# Altium integrated library Xilinx XC5200.IntLib: 211 symbols (part 8 of 19)
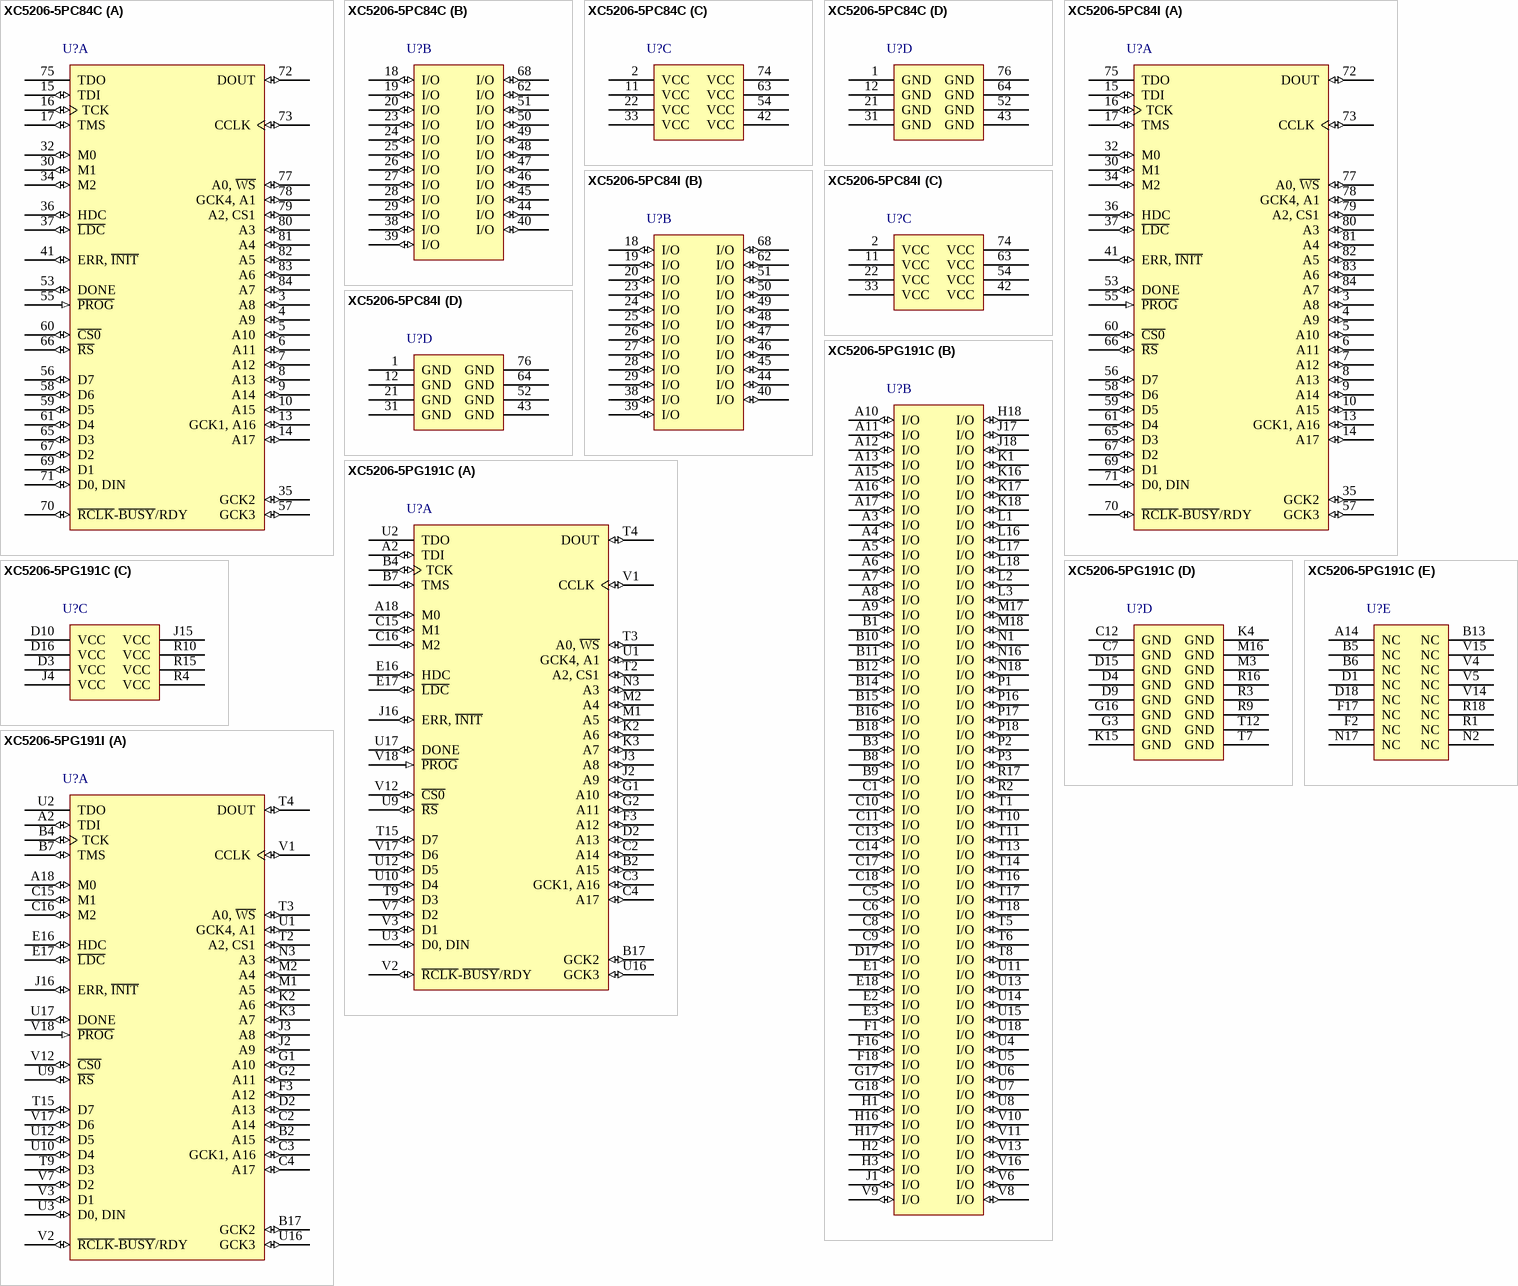
[diagram p70: symbols XC5206-5PC84C to XC5206-5PG191I]

## XC5206-5PG191C
designator U?
XC5200 Series FPGA, 148 User I/Os, 191-Pin PGA, Commercial Grade; Published: 17-Nov-2009; DatasheetVersion: ver5.2, Nov-1998; PackageVersion: ver1.1, Apr-2001; PackageReference: PG191; Publisher: Altium Limited; PackageDescription: 191-Pin Ceramic Pin Grid Array (PG191); ComponentLink1Description: XC5200 Datasheet; ComponentLink1URL: http://www.xilinx.com/support/documentation/data_sheets/5200.pdf; ComponentLink2Description: Pinout Specification; ComponentLink2URL: http://www.xilinx.com/support/documentation/data_sheets/5200.pdf; ComponentLink3Description: PG191 Package Drawing; ComponentLink3URL: http://www.xilinx.com/support/documentation/package_specs/pg191.pdf; ComponentLink4Description: XC5200 Documents; ComponentLink4URL: http://www.xilinx.com/support/documentation/xc5200.htm; ComponentLink5Description: Xilinx.com Home; ComponentLink5URL: http://www.xilinx.com
footprint PG191 (PGA, 191-Leads, Body 47x47mm, Pitch 2.54mm)
signal-integrity model XC5206_PG191 (XC5200)
part A pins: A2 TDI (io) "I/O (TDI)", A18 M0 (io) "M0 (I/O)", B2 A15 (io) "I/O (A15)", B4 TCK (io) "I/O (TCK)", B7 TMS (io) "I/O (TMS)", B17 GCK2 (io) "GCK2 (I/O)", C2 A14 (io) "I/O (A14)", C3 GCK1, A16 (io) "GCK1 (A16, I/O)", C4 A17 (io) "I/O (A17)", C15 M1 (io) "M1 (I/O)", C16 M2 (io) "M2 (I/O)", D2 A13 (io) "I/O (A13)", E16 HDC (io) "I/O (HDC)", E17 ~{LDC} (io) "I/O (LDC)", F3 A12 (io) "I/O (A12)", G1 A10 (io) "I/O (A10)", G2 A11 (io) "I/O (A11)", J2 A9 (io) "I/O (A9)", J3 A8 (io) "I/O (A8)", J16 ERR, ~{INIT} (io) "I/O (ERR, INIT)", K2 A6 (io) "I/O (A6)", K3 A7 (io) "I/O (A7)", M1 A5 (io) "I/O (A5)", M2 A4 (io) "I/O (A4)", N3 A3 (io) "I/O (A3)", T2 A2, CS1 (io) "I/O (A2, CS1)", T3 A0, ~{WS} (io) "I/O (A0, WS)", T4 DOUT (io) "I/O (DOUT)", T9 D3 (io) "I/O (D3)", T15 D7 (io) "I/O (D7)", U1 GCK4, A1 (io) "GCK4 (A1, I/O)", U2 TDO (hiz) "I/O (TDO)", U3 D0, DIN (io) "I/O (D0, DIN)", U9 ~{RS} (io) "I/O (RS)", U10 D4 (io) "I/O (D4)", U12 D5 (io) "I/O (D5)", U16 GCK3 (io) "GCK3 (I/O)", U17 DONE (io), V1 CCLK (io), V2 ~{RCLK}-~{BUSY}/RDY (io) "I/O (RCLK-BUSY/RDY)", V3 D1 (io) "I/O (D1)", V7 D2 (io) "I/O (D2)", V12 ~{CS0} (io) "I/O (CS0)", V17 D6 (io) "I/O (D6)", V18 ~{PROG} (in)
part B pins: A3 I/O (io), A4 I/O (io), A5 I/O (io), A6 I/O (io), A7 I/O (io), A8 I/O (io), A9 I/O (io), A10 I/O (io), A11 I/O (io), A12 I/O (io), A13 I/O (io), A15 I/O (io), A16 I/O (io), A17 I/O (io), B1 I/O (io), B3 I/O (io), B8 I/O (io), B9 I/O (io), B10 I/O (io), B11 I/O (io), B12 I/O (io), B14 I/O (io), B15 I/O (io), B16 I/O (io), B18 I/O (io), C1 I/O (io), C5 I/O (io), C6 I/O (io), C8 I/O (io), C9 I/O (io), C10 I/O (io), C11 I/O (io), C13 I/O (io), C14 I/O (io), C17 I/O (io), C18 I/O (io), D17 I/O (io), E1 I/O (io), E2 I/O (io), E3 I/O (io), E18 I/O (io), F1 I/O (io), F16 I/O (io), F18 I/O (io), G17 I/O (io), G18 I/O (io), H1 I/O (io), H2 I/O (io), H3 I/O (io), H16 I/O (io), H17 I/O (io), H18 I/O (io), J1 I/O (io), J17 I/O (io), J18 I/O (io), K1 I/O (io), K16 I/O (io), K17 I/O (io), K18 I/O (io), L1 I/O (io), L2 I/O (io), L3 I/O (io), L16 I/O (io), L17 I/O (io), L18 I/O (io), M17 I/O (io), M18 I/O (io), N1 I/O (io), N16 I/O (io), N18 I/O (io), P1 I/O (io), P2 I/O (io), P3 I/O (io), P16 I/O (io), P17 I/O (io), P18 I/O (io), R2 I/O (io), R17 I/O (io), T1 I/O (io), T5 I/O (io), T6 I/O (io), T8 I/O (io), T10 I/O (io), T11 I/O (io), T13 I/O (io), T14 I/O (io), T16 I/O (io), T17 I/O (io), T18 I/O (io), U4 I/O (io), U5 I/O (io), U6 I/O (io), U7 I/O (io), U8 I/O (io), U11 I/O (io), U13 I/O (io), U14 I/O (io), U15 I/O (io), U18 I/O (io), V6 I/O (io), V8 I/O (io), V9 I/O (io), V10 I/O (io), V11 I/O (io), V13 I/O (io), V16 I/O (io)
part C pins: D3 VCC (power), D10 VCC (power), D16 VCC (power), J4 VCC (power), J15 VCC (power), R4 VCC (power), R10 VCC (power), R15 VCC (power)
part D pins: C7 GND (power), C12 GND (power), D4 GND (power), D9 GND (power), D15 GND (power), G3 GND (power), G16 GND (power), K4 GND (power), K15 GND (power), M3 GND (power), M16 GND (power), R3 GND (power), R9 GND (power), R16 GND (power), T7 GND (power), T12 GND (power)
part E pins: A14 NC, B5 NC, B6 NC, B13 NC, D1 NC, D18 NC, F2 NC, F17 NC, N2 NC, N17 NC, R1 NC, R18 NC, V4 NC, V5 NC, V14 NC, V15 NC

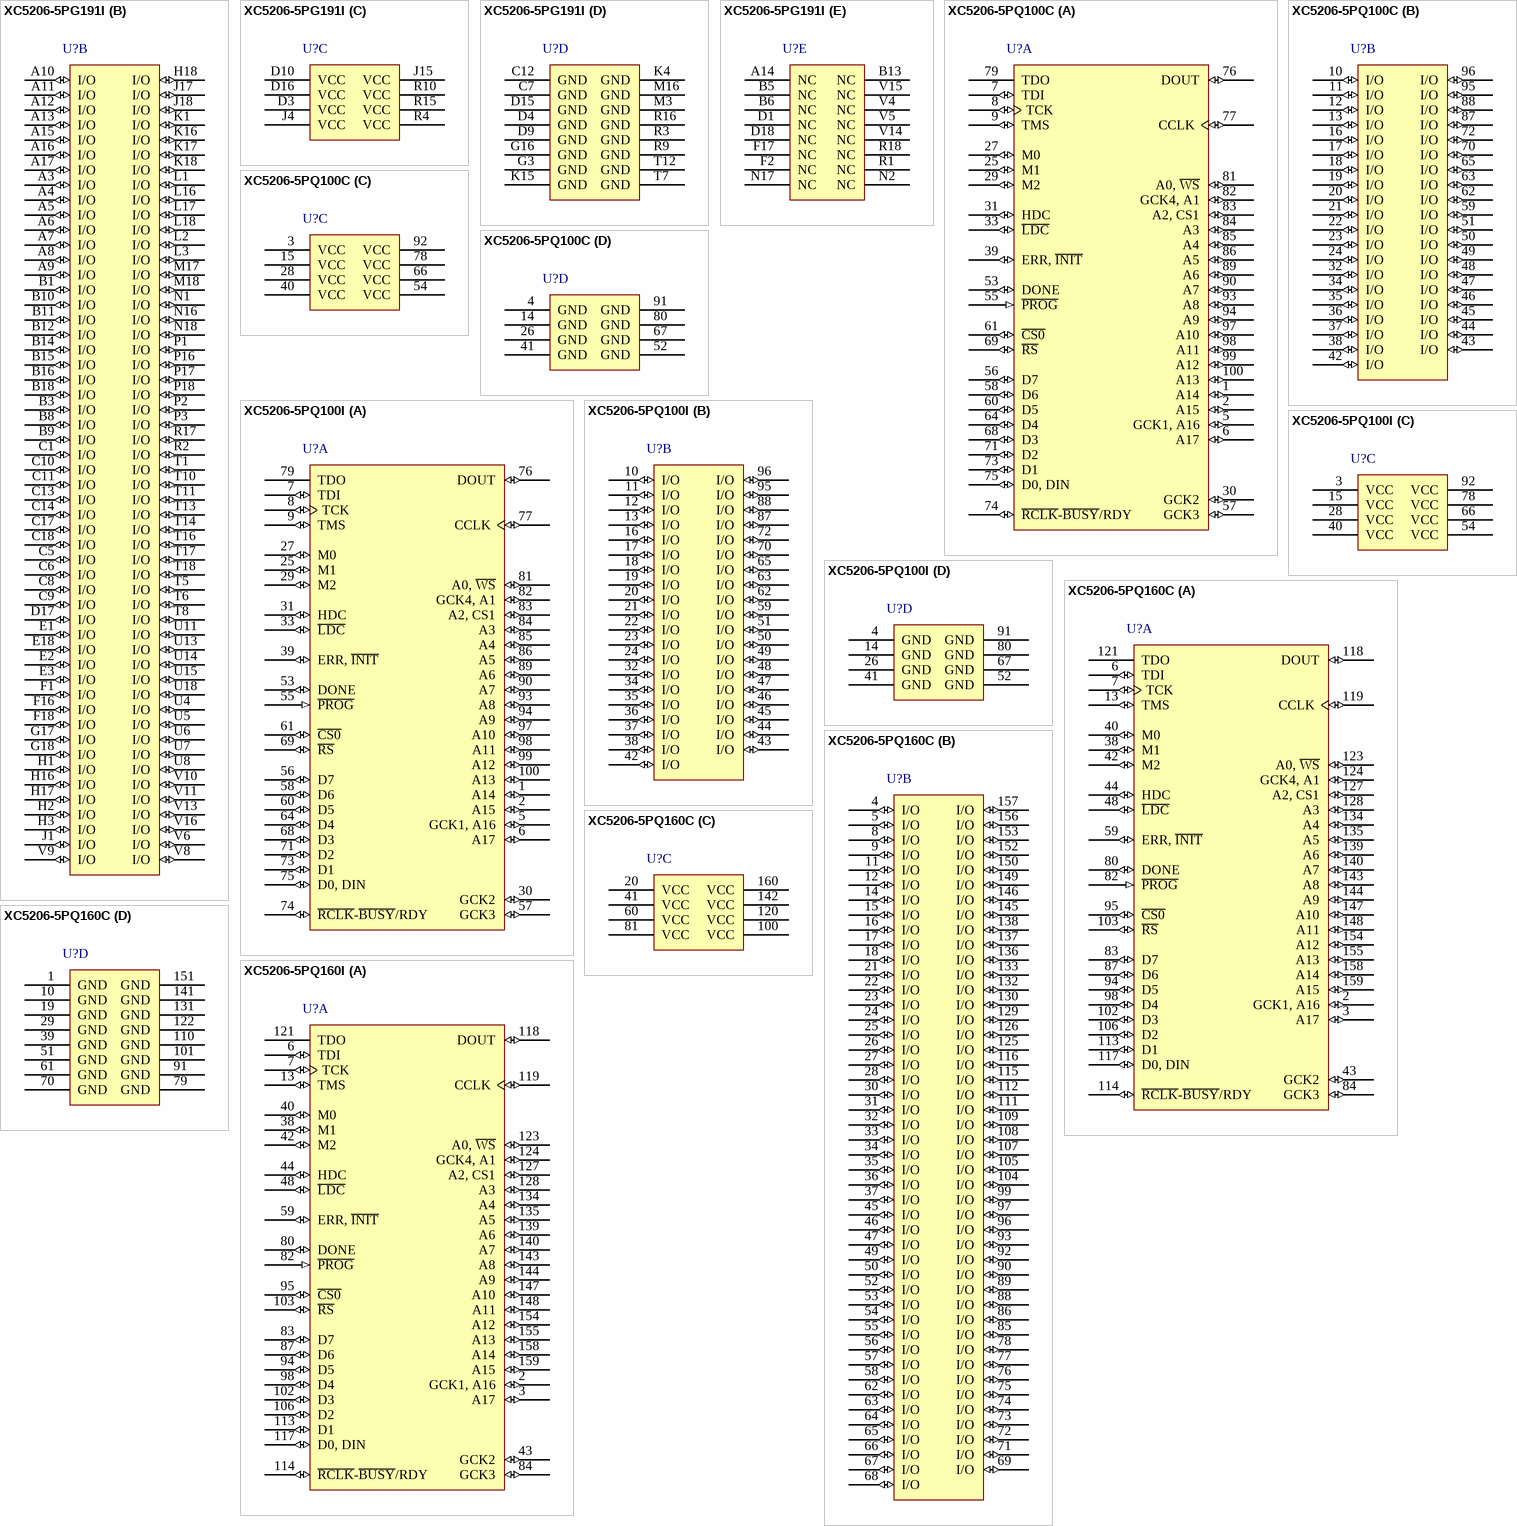
[diagram p23: symbols XC5206-5PG191I to XC5206-5PQ160I]

## XC5206-5PG191I
designator U?
XC5200 Series FPGA, 148 User I/Os, 191-Pin PGA, Industrial Grade; Published: 17-Nov-2009; DatasheetVersion: ver5.2, Nov-1998; PackageVersion: ver1.1, Apr-2001; PackageReference: PG191; Publisher: Altium Limited; PackageDescription: 191-Pin Ceramic Pin Grid Array (PG191); ComponentLink1Description: XC5200 Datasheet; ComponentLink1URL: http://www.xilinx.com/support/documentation/data_sheets/5200.pdf; ComponentLink2Description: Pinout Specification; ComponentLink2URL: http://www.xilinx.com/support/documentation/data_sheets/5200.pdf; ComponentLink3Description: PG191 Package Drawing; ComponentLink3URL: http://www.xilinx.com/support/documentation/package_specs/pg191.pdf; ComponentLink4Description: XC5200 Documents; ComponentLink4URL: http://www.xilinx.com/support/documentation/xc5200.htm; ComponentLink5Description: Xilinx.com Home; ComponentLink5URL: http://www.xilinx.com
footprint PG191 (PGA, 191-Leads, Body 47x47mm, Pitch 2.54mm)
signal-integrity model XC5206_PG191 (XC5200)
part A pins: A2 TDI (io) "I/O (TDI)", A18 M0 (io) "M0 (I/O)", B2 A15 (io) "I/O (A15)", B4 TCK (io) "I/O (TCK)", B7 TMS (io) "I/O (TMS)", B17 GCK2 (io) "GCK2 (I/O)", C2 A14 (io) "I/O (A14)", C3 GCK1, A16 (io) "GCK1 (A16, I/O)", C4 A17 (io) "I/O (A17)", C15 M1 (io) "M1 (I/O)", C16 M2 (io) "M2 (I/O)", D2 A13 (io) "I/O (A13)", E16 HDC (io) "I/O (HDC)", E17 ~{LDC} (io) "I/O (LDC)", F3 A12 (io) "I/O (A12)", G1 A10 (io) "I/O (A10)", G2 A11 (io) "I/O (A11)", J2 A9 (io) "I/O (A9)", J3 A8 (io) "I/O (A8)", J16 ERR, ~{INIT} (io) "I/O (ERR, INIT)", K2 A6 (io) "I/O (A6)", K3 A7 (io) "I/O (A7)", M1 A5 (io) "I/O (A5)", M2 A4 (io) "I/O (A4)", N3 A3 (io) "I/O (A3)", T2 A2, CS1 (io) "I/O (A2, CS1)", T3 A0, ~{WS} (io) "I/O (A0, WS)", T4 DOUT (io) "I/O (DOUT)", T9 D3 (io) "I/O (D3)", T15 D7 (io) "I/O (D7)", U1 GCK4, A1 (io) "GCK4 (A1, I/O)", U2 TDO (hiz) "I/O (TDO)", U3 D0, DIN (io) "I/O (D0, DIN)", U9 ~{RS} (io) "I/O (RS)", U10 D4 (io) "I/O (D4)", U12 D5 (io) "I/O (D5)", U16 GCK3 (io) "GCK3 (I/O)", U17 DONE (io), V1 CCLK (io), V2 ~{RCLK}-~{BUSY}/RDY (io) "I/O (RCLK-BUSY/RDY)", V3 D1 (io) "I/O (D1)", V7 D2 (io) "I/O (D2)", V12 ~{CS0} (io) "I/O (CS0)", V17 D6 (io) "I/O (D6)", V18 ~{PROG} (in)
part B pins: A3 I/O (io), A4 I/O (io), A5 I/O (io), A6 I/O (io), A7 I/O (io), A8 I/O (io), A9 I/O (io), A10 I/O (io), A11 I/O (io), A12 I/O (io), A13 I/O (io), A15 I/O (io), A16 I/O (io), A17 I/O (io), B1 I/O (io), B3 I/O (io), B8 I/O (io), B9 I/O (io), B10 I/O (io), B11 I/O (io), B12 I/O (io), B14 I/O (io), B15 I/O (io), B16 I/O (io), B18 I/O (io), C1 I/O (io), C5 I/O (io), C6 I/O (io), C8 I/O (io), C9 I/O (io), C10 I/O (io), C11 I/O (io), C13 I/O (io), C14 I/O (io), C17 I/O (io), C18 I/O (io), D17 I/O (io), E1 I/O (io), E2 I/O (io), E3 I/O (io), E18 I/O (io), F1 I/O (io), F16 I/O (io), F18 I/O (io), G17 I/O (io), G18 I/O (io), H1 I/O (io), H2 I/O (io), H3 I/O (io), H16 I/O (io), H17 I/O (io), H18 I/O (io), J1 I/O (io), J17 I/O (io), J18 I/O (io), K1 I/O (io), K16 I/O (io), K17 I/O (io), K18 I/O (io), L1 I/O (io), L2 I/O (io), L3 I/O (io), L16 I/O (io), L17 I/O (io), L18 I/O (io), M17 I/O (io), M18 I/O (io), N1 I/O (io), N16 I/O (io), N18 I/O (io), P1 I/O (io), P2 I/O (io), P3 I/O (io), P16 I/O (io), P17 I/O (io), P18 I/O (io), R2 I/O (io), R17 I/O (io), T1 I/O (io), T5 I/O (io), T6 I/O (io), T8 I/O (io), T10 I/O (io), T11 I/O (io), T13 I/O (io), T14 I/O (io), T16 I/O (io), T17 I/O (io), T18 I/O (io), U4 I/O (io), U5 I/O (io), U6 I/O (io), U7 I/O (io), U8 I/O (io), U11 I/O (io), U13 I/O (io), U14 I/O (io), U15 I/O (io), U18 I/O (io), V6 I/O (io), V8 I/O (io), V9 I/O (io), V10 I/O (io), V11 I/O (io), V13 I/O (io), V16 I/O (io)
part C pins: D3 VCC (power), D10 VCC (power), D16 VCC (power), J4 VCC (power), J15 VCC (power), R4 VCC (power), R10 VCC (power), R15 VCC (power)
part D pins: C7 GND (power), C12 GND (power), D4 GND (power), D9 GND (power), D15 GND (power), G3 GND (power), G16 GND (power), K4 GND (power), K15 GND (power), M3 GND (power), M16 GND (power), R3 GND (power), R9 GND (power), R16 GND (power), T7 GND (power), T12 GND (power)
part E pins: A14 NC, B5 NC, B6 NC, B13 NC, D1 NC, D18 NC, F2 NC, F17 NC, N2 NC, N17 NC, R1 NC, R18 NC, V4 NC, V5 NC, V14 NC, V15 NC

## XC5206-5PQ100C
designator U?
XC5200 Series FPGA, 81 User I/Os, 100-Pin PQFP, Commercial Grade; Published: 17-Nov-2009; DatasheetVersion: ver5.2, Nov-1998; PackageVersion: ver1.2, Oct-2002; PackageReference: PQ100; Publisher: Altium Limited; PackageDescription: 100-Pin Plastic Quad Flat Pack (PQ100); Code_IPC: QFP65P1720X2320-100; ComponentLink1Description: XC5200 Datasheet; ComponentLink1URL: http://www.xilinx.com/support/documentation/data_sheets/5200.pdf; ComponentLink2Description: Pinout Specification; ComponentLink2URL: http://www.xilinx.com/support/documentation/data_sheets/5200.pdf; ComponentLink3Description: PQ100 Package Drawing; ComponentLink3URL: http://www.xilinx.com/support/documentation/package_specs/pq100.pdf; ComponentLink4Description: XC5200 Documents; ComponentLink4URL: http://www.xilinx.com/support/documentation/xc5200.htm; ComponentLink5Description: Xilinx.com Home; ComponentLink5URL: http://www.xilinx.com
footprint PQ100_N (QFP, 100-Leads, Body 20x14mm, Pitch 0.65mm, IPC Medium Density)
footprint PQ100_L (QFP, 100-Leads, Body 20x14mm, Pitch 0.65mm, IPC High Density)
footprint PQ100_M (QFP, 100-Leads, Body 20x14mm, Pitch 0.65mm, IPC Low Density)
signal-integrity model XC5206_PQ100 (XC5200)
part A pins: 1 A14 (io) "I/O (A14)", 2 A15 (io) "I/O (A15)", 5 GCK1, A16 (io) "GCK1 (A16, I/O)", 6 A17 (io) "I/O (A17)", 7 TDI (io) "I/O (TDI)", 8 TCK (io) "I/O (TCK)", 9 TMS (io) "I/O (TMS)", 25 M1 (io) "M1 (I/O)", 27 M0 (io) "M0 (I/O)", 29 M2 (io) "M2 (I/O)", 30 GCK2 (io) "GCK2 (I/O)", 31 HDC (io) "I/O (HDC)", 33 ~{LDC} (io) "I/O (LDC)", 39 ERR, ~{INIT} (io) "I/O (ERR, INIT)", 53 DONE (io), 55 ~{PROG} (in), 56 D7 (io) "I/O (D7)", 57 GCK3 (io) "GCK3 (I/O)", 58 D6 (io) "I/O (D6)", 60 D5 (io) "I/O (D5)", 61 ~{CS0} (io) "I/O (CS0)", 64 D4 (io) "I/O (D4)", 68 D3 (io) "I/O (D3)", 69 ~{RS} (io) "I/O (RS)", 71 D2 (io) "I/O (D2)", 73 D1 (io) "I/O (D1)", 74 ~{RCLK}-~{BUSY}/RDY (io) "I/O (RCLK-BUSY/RDY)", 75 D0, DIN (io) "I/O (D0, DIN)", 76 DOUT (io) "I/O (DOUT)", 77 CCLK (io), 79 TDO (hiz) "I/O (TDO)", 81 A0, ~{WS} (io) "I/O (A0, WS)", 82 GCK4, A1 (io) "GCK4 (A1, I/O)", 83 A2, CS1 (io) "I/O (A2, CS1)", 84 A3 (io) "I/O (A3)", 85 A4 (io) "I/O (A4)", 86 A5 (io) "I/O (A5)", 89 A6 (io) "I/O (A6)", 90 A7 (io) "I/O (A7)", 93 A8 (io) "I/O (A8)", 94 A9 (io) "I/O (A9)", 97 A10 (io) "I/O (A10)", 98 A11 (io) "I/O (A11)", 99 A12 (io) "I/O (A12)", 100 A13 (io) "I/O (A13)"
part B pins: 10 I/O (io), 11 I/O (io), 12 I/O (io), 13 I/O (io), 16 I/O (io), 17 I/O (io), 18 I/O (io), 19 I/O (io), 20 I/O (io), 21 I/O (io), 22 I/O (io), 23 I/O (io), 24 I/O (io), 32 I/O (io), 34 I/O (io), 35 I/O (io), 36 I/O (io), 37 I/O (io), 38 I/O (io), 42 I/O (io), 43 I/O (io), 44 I/O (io), 45 I/O (io), 46 I/O (io), 47 I/O (io), 48 I/O (io), 49 I/O (io), 50 I/O (io), 51 I/O (io), 59 I/O (io), 62 I/O (io), 63 I/O (io), 65 I/O (io), 70 I/O (io), 72 I/O (io), 87 I/O (io), 88 I/O (io), 95 I/O (io), 96 I/O (io)
part C pins: 3 VCC (power), 15 VCC (power), 28 VCC (power), 40 VCC (power), 54 VCC (power), 66 VCC (power), 78 VCC (power), 92 VCC (power)
part D pins: 4 GND (power), 14 GND (power), 26 GND (power), 41 GND (power), 52 GND (power), 67 GND (power), 80 GND (power), 91 GND (power)

## XC5206-5PQ100I
designator U?
XC5200 Series FPGA, 81 User I/Os, 100-Pin PQFP, Industrial Grade; Published: 17-Nov-2009; DatasheetVersion: ver5.2, Nov-1998; PackageVersion: ver1.2, Oct-2002; PackageReference: PQ100; Publisher: Altium Limited; PackageDescription: 100-Pin Plastic Quad Flat Pack (PQ100); Code_IPC: QFP65P1720X2320-100; ComponentLink1Description: XC5200 Datasheet; ComponentLink1URL: http://www.xilinx.com/support/documentation/data_sheets/5200.pdf; ComponentLink2Description: Pinout Specification; ComponentLink2URL: http://www.xilinx.com/support/documentation/data_sheets/5200.pdf; ComponentLink3Description: PQ100 Package Drawing; ComponentLink3URL: http://www.xilinx.com/support/documentation/package_specs/pq100.pdf; ComponentLink4Description: XC5200 Documents; ComponentLink4URL: http://www.xilinx.com/support/documentation/xc5200.htm; ComponentLink5Description: Xilinx.com Home; ComponentLink5URL: http://www.xilinx.com
footprint PQ100_N (QFP, 100-Leads, Body 20x14mm, Pitch 0.65mm, IPC Medium Density)
footprint PQ100_L (QFP, 100-Leads, Body 20x14mm, Pitch 0.65mm, IPC High Density)
footprint PQ100_M (QFP, 100-Leads, Body 20x14mm, Pitch 0.65mm, IPC Low Density)
signal-integrity model XC5206_PQ100 (XC5200)
part A pins: 1 A14 (io) "I/O (A14)", 2 A15 (io) "I/O (A15)", 5 GCK1, A16 (io) "GCK1 (A16, I/O)", 6 A17 (io) "I/O (A17)", 7 TDI (io) "I/O (TDI)", 8 TCK (io) "I/O (TCK)", 9 TMS (io) "I/O (TMS)", 25 M1 (io) "M1 (I/O)", 27 M0 (io) "M0 (I/O)", 29 M2 (io) "M2 (I/O)", 30 GCK2 (io) "GCK2 (I/O)", 31 HDC (io) "I/O (HDC)", 33 ~{LDC} (io) "I/O (LDC)", 39 ERR, ~{INIT} (io) "I/O (ERR, INIT)", 53 DONE (io), 55 ~{PROG} (in), 56 D7 (io) "I/O (D7)", 57 GCK3 (io) "GCK3 (I/O)", 58 D6 (io) "I/O (D6)", 60 D5 (io) "I/O (D5)", 61 ~{CS0} (io) "I/O (CS0)", 64 D4 (io) "I/O (D4)", 68 D3 (io) "I/O (D3)", 69 ~{RS} (io) "I/O (RS)", 71 D2 (io) "I/O (D2)", 73 D1 (io) "I/O (D1)", 74 ~{RCLK}-~{BUSY}/RDY (io) "I/O (RCLK-BUSY/RDY)", 75 D0, DIN (io) "I/O (D0, DIN)", 76 DOUT (io) "I/O (DOUT)", 77 CCLK (io), 79 TDO (hiz) "I/O (TDO)", 81 A0, ~{WS} (io) "I/O (A0, WS)", 82 GCK4, A1 (io) "GCK4 (A1, I/O)", 83 A2, CS1 (io) "I/O (A2, CS1)", 84 A3 (io) "I/O (A3)", 85 A4 (io) "I/O (A4)", 86 A5 (io) "I/O (A5)", 89 A6 (io) "I/O (A6)", 90 A7 (io) "I/O (A7)", 93 A8 (io) "I/O (A8)", 94 A9 (io) "I/O (A9)", 97 A10 (io) "I/O (A10)", 98 A11 (io) "I/O (A11)", 99 A12 (io) "I/O (A12)", 100 A13 (io) "I/O (A13)"
part B pins: 10 I/O (io), 11 I/O (io), 12 I/O (io), 13 I/O (io), 16 I/O (io), 17 I/O (io), 18 I/O (io), 19 I/O (io), 20 I/O (io), 21 I/O (io), 22 I/O (io), 23 I/O (io), 24 I/O (io), 32 I/O (io), 34 I/O (io), 35 I/O (io), 36 I/O (io), 37 I/O (io), 38 I/O (io), 42 I/O (io), 43 I/O (io), 44 I/O (io), 45 I/O (io), 46 I/O (io), 47 I/O (io), 48 I/O (io), 49 I/O (io), 50 I/O (io), 51 I/O (io), 59 I/O (io), 62 I/O (io), 63 I/O (io), 65 I/O (io), 70 I/O (io), 72 I/O (io), 87 I/O (io), 88 I/O (io), 95 I/O (io), 96 I/O (io)
part C pins: 3 VCC (power), 15 VCC (power), 28 VCC (power), 40 VCC (power), 54 VCC (power), 66 VCC (power), 78 VCC (power), 92 VCC (power)
part D pins: 4 GND (power), 14 GND (power), 26 GND (power), 41 GND (power), 52 GND (power), 67 GND (power), 80 GND (power), 91 GND (power)

## XC5206-5PQ160C
designator U?
XC5200 Series FPGA, 133 User I/Os, 160-Pin PQFP, Commercial Grade; Published: 17-Nov-2009; DatasheetVersion: ver5.2, Nov-1998; PackageVersion: ver1.2, Jun-2004; PackageReference: PQ160; Publisher: Altium Limited; PackageDescription: 160-Pin Plastic Quad Flat Pack (PQ160); Supplier 1: Digi-Key; Supplier Part Number 1: 122-1140-ND; Code_JEDEC: MS-022-DD1; Code_IPC: QFP65P3120X3120-160; ComponentLink1Description: XC5200 Datasheet; ComponentLink1URL: http://www.xilinx.com/support/documentation/data_sheets/5200.pdf; ComponentLink2Description: Pinout Specification; ComponentLink2URL: http://www.xilinx.com/support/documentation/data_sheets/5200.pdf; ComponentLink3Description: Discontinuation Notice; ComponentLink3URL: http://www.xilinx.com/support/documentation/customer_notices/xcn09001.pdf; ComponentLink4Description: PQ160 Package Drawing; ComponentLink4URL: http://www.xilinx.com/support/documentation/package_specs/pq160.pdf; ComponentLink5Description: XC5200 Documents; ComponentLink5URL: http://www.xilinx.com/support/documentation/xc5200.htm; ComponentLink6Description: Xilinx.com Home; ComponentLink6URL: http://www.xilinx.com
footprint PQ160_N (QFP, 160-Leads, Body 28x28mm, Pitch 0.65mm, IPC Medium Density)
footprint PQ160_L (QFP, 160-Leads, Body 28x28mm, Pitch 0.65mm, IPC High Density)
footprint PQ160_M (QFP, 160-Leads, Body 28x28mm, Pitch 0.65mm, IPC Low Density)
signal-integrity model XC5206_PQ160 (XC5200)
part A pins: 2 GCK1, A16 (io) "GCK1 (A16, I/O)", 3 A17 (io) "I/O (A17)", 6 TDI (io) "I/O (TDI)", 7 TCK (io) "I/O (TCK)", 13 TMS (io) "I/O (TMS)", 38 M1 (io) "M1 (I/O)", 40 M0 (io) "M0 (I/O)", 42 M2 (io) "M2 (I/O)", 43 GCK2 (io) "GCK2 (I/O)", 44 HDC (io) "I/O (HDC)", 48 ~{LDC} (io) "I/O (LDC)", 59 ERR, ~{INIT} (io) "I/O (ERR, INIT)", 80 DONE (io), 82 ~{PROG} (in), 83 D7 (io) "I/O (D7)", 84 GCK3 (io) "GCK3 (I/O)", 87 D6 (io) "I/O (D6)", 94 D5 (io) "I/O (D5)", 95 ~{CS0} (io) "I/O (CS0)", 98 D4 (io) "I/O (D4)", 102 D3 (io) "I/O (D3)", 103 ~{RS} (io) "I/O (RS)", 106 D2 (io) "I/O (D2)", 113 D1 (io) "I/O (D1)", 114 ~{RCLK}-~{BUSY}/RDY (io) "I/O (RCLK-BUSY/RDY)", 117 D0, DIN (io) "I/O (D0, DIN)", 118 DOUT (io) "I/O (DOUT)", 119 CCLK (io), 121 TDO (hiz) "I/O (TDO)", 123 A0, ~{WS} (io) "I/O (A0, WS)", 124 GCK4, A1 (io) "GCK4 (A1, I/O)", 127 A2, CS1 (io) "I/O (A2, CS1)", 128 A3 (io) "I/O (A3)", 134 A4 (io) "I/O (A4)", 135 A5 (io) "I/O (A5)", 139 A6 (io) "I/O (A6)", 140 A7 (io) "I/O (A7)", 143 A8 (io) "I/O (A8)", 144 A9 (io) "I/O (A9)", 147 A10 (io) "I/O (A10)", 148 A11 (io) "I/O (A11)", 154 A12 (io) "I/O (A12)", 155 A13 (io) "I/O (A13)", 158 A14 (io) "I/O (A14)", 159 A15 (io) "I/O (A15)"
part B pins: 4 I/O (io), 5 I/O (io), 8 I/O (io), 9 I/O (io), 11 I/O (io), 12 I/O (io), 14 I/O (io), 15 I/O (io), 16 I/O (io), 17 I/O (io), 18 I/O (io), 21 I/O (io), 22 I/O (io), 23 I/O (io), 24 I/O (io), 25 I/O (io), 26 I/O (io), 27 I/O (io), 28 I/O (io), 30 I/O (io), 31 I/O (io), 32 I/O (io), 33 I/O (io), 34 I/O (io), 35 I/O (io), 36 I/O (io), 37 I/O (io), 45 I/O (io), 46 I/O (io), 47 I/O (io), 49 I/O (io), 50 I/O (io), 52 I/O (io), 53 I/O (io), 54 I/O (io), 55 I/O (io), 56 I/O (io), 57 I/O (io), 58 I/O (io), 62 I/O (io), 63 I/O (io), 64 I/O (io), 65 I/O (io), 66 I/O (io), 67 I/O (io), 68 I/O (io), 69 I/O (io), 71 I/O (io), 72 I/O (io), 73 I/O (io), 74 I/O (io), 75 I/O (io), 76 I/O (io), 77 I/O (io), 78 I/O (io), 85 I/O (io), 86 I/O (io), 88 I/O (io), 89 I/O (io), 90 I/O (io), 92 I/O (io), 93 I/O (io), 96 I/O (io), 97 I/O (io), 99 I/O (io), 104 I/O (io), 105 I/O (io), 107 I/O (io), 108 I/O (io), 109 I/O (io), 111 I/O (io), 112 I/O (io), 115 I/O (io), 116 I/O (io), 125 I/O (io), 126 I/O (io), 129 I/O (io), 130 I/O (io), 132 I/O (io), 133 I/O (io), 136 I/O (io), 137 I/O (io), 138 I/O (io), 145 I/O (io), 146 I/O (io), 149 I/O (io), 150 I/O (io), 152 I/O (io), 153 I/O (io), 156 I/O (io), 157 I/O (io)
part C pins: 20 VCC (power), 41 VCC (power), 60 VCC (power), 81 VCC (power), 100 VCC (power), 120 VCC (power), 142 VCC (power), 160 VCC (power)
part D pins: 1 GND (power), 10 GND (power), 19 GND (power), 29 GND (power), 39 GND (power), 51 GND (power), 61 GND (power), 70 GND (power), 79 GND (power), 91 GND (power), 101 GND (power), 110 GND (power), 122 GND (power), 131 GND (power), 141 GND (power), 151 GND (power)

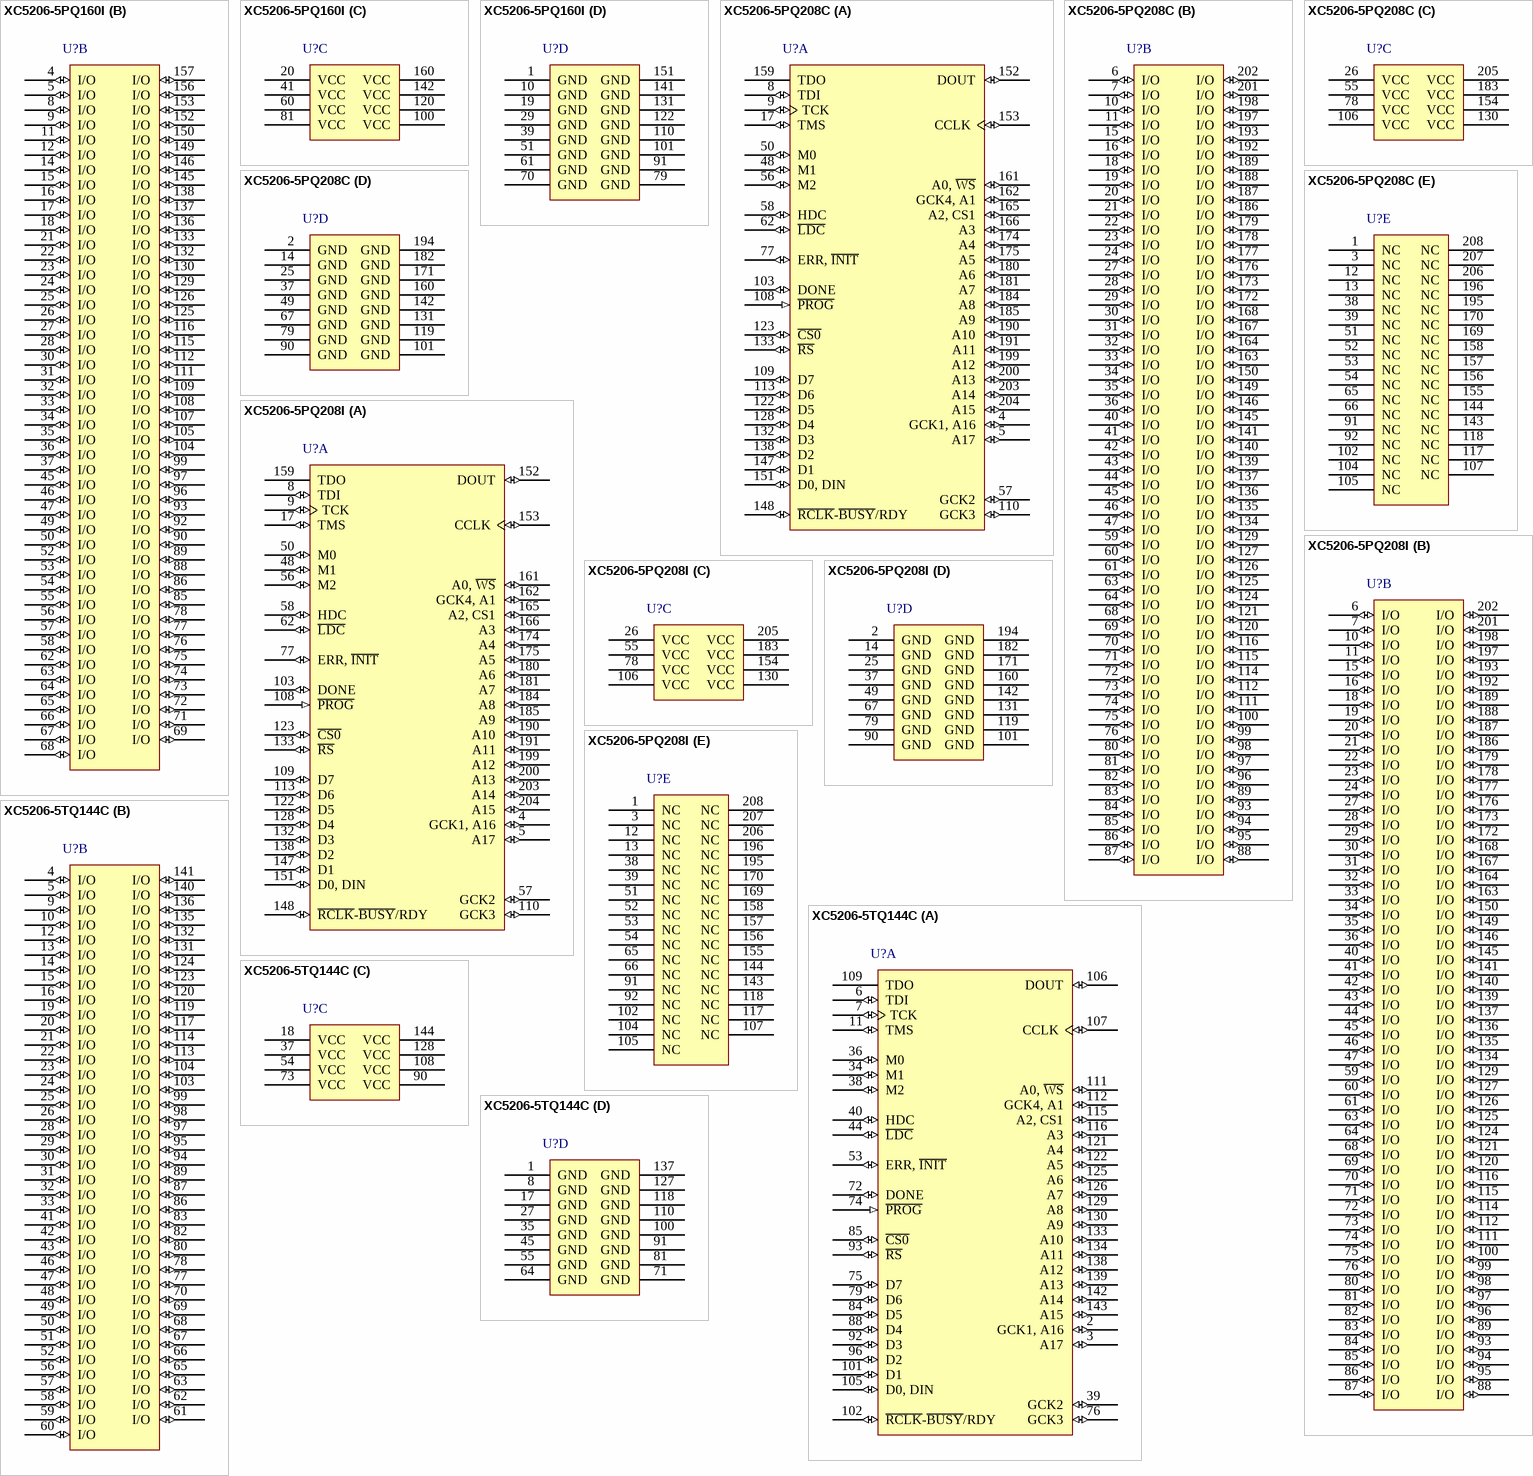
[diagram p24: symbols XC5206-5PQ160I to XC5206-5TQ144C]

## XC5206-5PQ160I
designator U?
XC5200 Series FPGA, 133 User I/Os, 160-Pin PQFP, Industrial Grade; Published: 17-Nov-2009; DatasheetVersion: ver5.2, Nov-1998; PackageVersion: ver1.2, Jun-2004; PackageReference: PQ160; Publisher: Altium Limited; PackageDescription: 160-Pin Plastic Quad Flat Pack (PQ160); Code_JEDEC: MS-022-DD1; Code_IPC: QFP65P3120X3120-160; ComponentLink1Description: XC5200 Datasheet; ComponentLink1URL: http://www.xilinx.com/support/documentation/data_sheets/5200.pdf; ComponentLink2Description: Pinout Specification; ComponentLink2URL: http://www.xilinx.com/support/documentation/data_sheets/5200.pdf; ComponentLink3Description: Discontinuation Notice; ComponentLink3URL: http://www.xilinx.com/support/documentation/customer_notices/xcn09001.pdf; ComponentLink4Description: PQ160 Package Drawing; ComponentLink4URL: http://www.xilinx.com/support/documentation/package_specs/pq160.pdf; ComponentLink5Description: XC5200 Documents; ComponentLink5URL: http://www.xilinx.com/support/documentation/xc5200.htm; ComponentLink6Description: Xilinx.com Home; ComponentLink6URL: http://www.xilinx.com
footprint PQ160_N (QFP, 160-Leads, Body 28x28mm, Pitch 0.65mm, IPC Medium Density)
footprint PQ160_L (QFP, 160-Leads, Body 28x28mm, Pitch 0.65mm, IPC High Density)
footprint PQ160_M (QFP, 160-Leads, Body 28x28mm, Pitch 0.65mm, IPC Low Density)
signal-integrity model XC5206_PQ160 (XC5200)
part A pins: 2 GCK1, A16 (io) "GCK1 (A16, I/O)", 3 A17 (io) "I/O (A17)", 6 TDI (io) "I/O (TDI)", 7 TCK (io) "I/O (TCK)", 13 TMS (io) "I/O (TMS)", 38 M1 (io) "M1 (I/O)", 40 M0 (io) "M0 (I/O)", 42 M2 (io) "M2 (I/O)", 43 GCK2 (io) "GCK2 (I/O)", 44 HDC (io) "I/O (HDC)", 48 ~{LDC} (io) "I/O (LDC)", 59 ERR, ~{INIT} (io) "I/O (ERR, INIT)", 80 DONE (io), 82 ~{PROG} (in), 83 D7 (io) "I/O (D7)", 84 GCK3 (io) "GCK3 (I/O)", 87 D6 (io) "I/O (D6)", 94 D5 (io) "I/O (D5)", 95 ~{CS0} (io) "I/O (CS0)", 98 D4 (io) "I/O (D4)", 102 D3 (io) "I/O (D3)", 103 ~{RS} (io) "I/O (RS)", 106 D2 (io) "I/O (D2)", 113 D1 (io) "I/O (D1)", 114 ~{RCLK}-~{BUSY}/RDY (io) "I/O (RCLK-BUSY/RDY)", 117 D0, DIN (io) "I/O (D0, DIN)", 118 DOUT (io) "I/O (DOUT)", 119 CCLK (io), 121 TDO (hiz) "I/O (TDO)", 123 A0, ~{WS} (io) "I/O (A0, WS)", 124 GCK4, A1 (io) "GCK4 (A1, I/O)", 127 A2, CS1 (io) "I/O (A2, CS1)", 128 A3 (io) "I/O (A3)", 134 A4 (io) "I/O (A4)", 135 A5 (io) "I/O (A5)", 139 A6 (io) "I/O (A6)", 140 A7 (io) "I/O (A7)", 143 A8 (io) "I/O (A8)", 144 A9 (io) "I/O (A9)", 147 A10 (io) "I/O (A10)", 148 A11 (io) "I/O (A11)", 154 A12 (io) "I/O (A12)", 155 A13 (io) "I/O (A13)", 158 A14 (io) "I/O (A14)", 159 A15 (io) "I/O (A15)"
part B pins: 4 I/O (io), 5 I/O (io), 8 I/O (io), 9 I/O (io), 11 I/O (io), 12 I/O (io), 14 I/O (io), 15 I/O (io), 16 I/O (io), 17 I/O (io), 18 I/O (io), 21 I/O (io), 22 I/O (io), 23 I/O (io), 24 I/O (io), 25 I/O (io), 26 I/O (io), 27 I/O (io), 28 I/O (io), 30 I/O (io), 31 I/O (io), 32 I/O (io), 33 I/O (io), 34 I/O (io), 35 I/O (io), 36 I/O (io), 37 I/O (io), 45 I/O (io), 46 I/O (io), 47 I/O (io), 49 I/O (io), 50 I/O (io), 52 I/O (io), 53 I/O (io), 54 I/O (io), 55 I/O (io), 56 I/O (io), 57 I/O (io), 58 I/O (io), 62 I/O (io), 63 I/O (io), 64 I/O (io), 65 I/O (io), 66 I/O (io), 67 I/O (io), 68 I/O (io), 69 I/O (io), 71 I/O (io), 72 I/O (io), 73 I/O (io), 74 I/O (io), 75 I/O (io), 76 I/O (io), 77 I/O (io), 78 I/O (io), 85 I/O (io), 86 I/O (io), 88 I/O (io), 89 I/O (io), 90 I/O (io), 92 I/O (io), 93 I/O (io), 96 I/O (io), 97 I/O (io), 99 I/O (io), 104 I/O (io), 105 I/O (io), 107 I/O (io), 108 I/O (io), 109 I/O (io), 111 I/O (io), 112 I/O (io), 115 I/O (io), 116 I/O (io), 125 I/O (io), 126 I/O (io), 129 I/O (io), 130 I/O (io), 132 I/O (io), 133 I/O (io), 136 I/O (io), 137 I/O (io), 138 I/O (io), 145 I/O (io), 146 I/O (io), 149 I/O (io), 150 I/O (io), 152 I/O (io), 153 I/O (io), 156 I/O (io), 157 I/O (io)
part C pins: 20 VCC (power), 41 VCC (power), 60 VCC (power), 81 VCC (power), 100 VCC (power), 120 VCC (power), 142 VCC (power), 160 VCC (power)
part D pins: 1 GND (power), 10 GND (power), 19 GND (power), 29 GND (power), 39 GND (power), 51 GND (power), 61 GND (power), 70 GND (power), 79 GND (power), 91 GND (power), 101 GND (power), 110 GND (power), 122 GND (power), 131 GND (power), 141 GND (power), 151 GND (power)

## XC5206-5PQ208C
designator U?
XC5200 Series FPGA, 148 User I/Os, 208-Pin PQFP, Commercial Grade; Published: 17-Nov-2009; DatasheetVersion: ver5.2, Nov-1998; PackageVersion: ver1.2, Jun-2004; PackageReference: PQ208; Publisher: Altium Limited; PackageDescription: 208-Pin Plastic Quad Flat Pack (PQ208); Supplier 1: Digi-Key; Supplier Part Number 1: 122-1142-ND; Code_JEDEC: MS-029-FA-1; ComponentLink1Description: XC5200 Datasheet; ComponentLink1URL: http://www.xilinx.com/support/documentation/data_sheets/5200.pdf; ComponentLink2Description: Pinout Specification; ComponentLink2URL: http://www.xilinx.com/support/documentation/data_sheets/5200.pdf; ComponentLink3Description: Discontinuation Notice; ComponentLink3URL: http://www.xilinx.com/support/documentation/customer_notices/xcn09001.pdf; ComponentLink4Description: PQ208 Package Drawing; ComponentLink4URL: http://www.xilinx.com/support/documentation/package_specs/pq208.pdf; ComponentLink5Description: XC5200 Documents; ComponentLink5URL: http://www.xilinx.com/support/documentation/xc5200.htm; ComponentLink6Description: Xilinx.com Home; ComponentLink6URL: http://www.xilinx.com
footprint PQ208_N (Shrink QFP, 208-Leads, Body 28x28mm, Pitch 0.5mm, IPC Medium Density)
footprint PQ208_L (Shrink QFP, 208-Leads, Body 28x28mm, Pitch 0.5mm, IPC High Density)
footprint PQ208_M (Shrink QFP, 208-Leads, Body 28x28mm, Pitch 0.5mm, IPC Low Density)
signal-integrity model XC5206_PQ208 (XC5200)
part A pins: 4 GCK1, A16 (io) "GCK1 (A16, I/O)", 5 A17 (io) "I/O (A17)", 8 TDI (io) "I/O (TDI)", 9 TCK (io) "I/O (TCK)", 17 TMS (io) "I/O (TMS)", 48 M1 (io) "M1 (I/O)", 50 M0 (io) "M0 (I/O)", 56 M2 (io) "M2 (I/O)", 57 GCK2 (io) "GCK2 (I/O)", 58 HDC (io) "I/O (HDC)", 62 ~{LDC} (io) "I/O (LDC)", 77 ERR, ~{INIT} (io) "I/O (ERR, INIT)", 103 DONE (io), 108 ~{PROG} (in), 109 D7 (io) "I/O (D7)", 110 GCK3 (io) "GCK3 (I/O)", 113 D6 (io) "I/O (D6)", 122 D5 (io) "I/O (D5)", 123 ~{CS0} (io) "I/O (CS0)", 128 D4 (io) "I/O (D4)", 132 D3 (io) "I/O (D3)", 133 ~{RS} (io) "I/O (RS)", 138 D2 (io) "I/O (D2)", 147 D1 (io) "I/O (D1)", 148 ~{RCLK}-~{BUSY}/RDY (io) "I/O (RCLK-BUSY/RDY)", 151 D0, DIN (io) "I/O (D0, DIN)", 152 DOUT (io) "I/O (DOUT)", 153 CCLK (io), 159 TDO (hiz) "I/O (TDO)", 161 A0, ~{WS} (io) "I/O (A0, WS)", 162 GCK4, A1 (io) "GCK4 (A1, I/O)", 165 A2, CS1 (io) "I/O (A2, CS1)", 166 A3 (io) "I/O (A3)", 174 A4 (io) "I/O (A4)", 175 A5 (io) "I/O (A5)", 180 A6 (io) "I/O (A6)", 181 A7 (io) "I/O (A7)", 184 A8 (io) "I/O (A8)", 185 A9 (io) "I/O (A9)", 190 A10 (io) "I/O (A10)", 191 A11 (io) "I/O (A11)", 199 A12 (io) "I/O (A12)", 200 A13 (io) "I/O (A13)", 203 A14 (io) "I/O (A14)", 204 A15 (io) "I/O (A15)"
part B pins: 6 I/O (io), 7 I/O (io), 10 I/O (io), 11 I/O (io), 15 I/O (io), 16 I/O (io), 18 I/O (io), 19 I/O (io), 20 I/O (io), 21 I/O (io), 22 I/O (io), 23 I/O (io), 24 I/O (io), 27 I/O (io), 28 I/O (io), 29 I/O (io), 30 I/O (io), 31 I/O (io), 32 I/O (io), 33 I/O (io), 34 I/O (io), 35 I/O (io), 36 I/O (io), 40 I/O (io), 41 I/O (io), 42 I/O (io), 43 I/O (io), 44 I/O (io), 45 I/O (io), 46 I/O (io), 47 I/O (io), 59 I/O (io), 60 I/O (io), 61 I/O (io), 63 I/O (io), 64 I/O (io), 68 I/O (io), 69 I/O (io), 70 I/O (io), 71 I/O (io), 72 I/O (io), 73 I/O (io), 74 I/O (io), 75 I/O (io), 76 I/O (io), 80 I/O (io), 81 I/O (io), 82 I/O (io), 83 I/O (io), 84 I/O (io), 85 I/O (io), 86 I/O (io), 87 I/O (io), 88 I/O (io), 89 I/O (io), 93 I/O (io), 94 I/O (io), 95 I/O (io), 96 I/O (io), 97 I/O (io), 98 I/O (io), 99 I/O (io), 100 I/O (io), 111 I/O (io), 112 I/O (io), 114 I/O (io), 115 I/O (io), 116 I/O (io), 120 I/O (io), 121 I/O (io), 124 I/O (io), 125 I/O (io), 126 I/O (io), 127 I/O (io), 129 I/O (io), 134 I/O (io), 135 I/O (io), 136 I/O (io), 137 I/O (io), 139 I/O (io), 140 I/O (io), 141 I/O (io), 145 I/O (io), 146 I/O (io), 149 I/O (io), 150 I/O (io), 163 I/O (io), 164 I/O (io), 167 I/O (io), 168 I/O (io), 172 I/O (io), 173 I/O (io), 176 I/O (io), 177 I/O (io), 178 I/O (io), 179 I/O (io), 186 I/O (io), 187 I/O (io), 188 I/O (io), 189 I/O (io), 192 I/O (io), 193 I/O (io), 197 I/O (io), 198 I/O (io), 201 I/O (io), 202 I/O (io)
part C pins: 26 VCC (power), 55 VCC (power), 78 VCC (power), 106 VCC (power), 130 VCC (power), 154 VCC (power), 183 VCC (power), 205 VCC (power)
part D pins: 2 GND (power), 14 GND (power), 25 GND (power), 37 GND (power), 49 GND (power), 67 GND (power), 79 GND (power), 90 GND (power), 101 GND (power), 119 GND (power), 131 GND (power), 142 GND (power), 160 GND (power), 171 GND (power), 182 GND (power), 194 GND (power)
part E pins: 1 NC, 3 NC, 12 NC, 13 NC, 38 NC, 39 NC, 51 NC, 52 NC, 53 NC, 54 NC, 65 NC, 66 NC, 91 NC, 92 NC, 102 NC, 104 NC, 105 NC, 107 NC, 117 NC, 118 NC, 143 NC, 144 NC, 155 NC, 156 NC, 157 NC, 158 NC, 169 NC, 170 NC, 195 NC, 196 NC, 206 NC, 207 NC, 208 NC

## XC5206-5PQ208I
designator U?
XC5200 Series FPGA, 148 User I/Os, 208-Pin PQFP, Industrial Grade; Published: 17-Nov-2009; DatasheetVersion: ver5.2, Nov-1998; PackageVersion: ver1.2, Jun-2004; PackageReference: PQ208; Publisher: Altium Limited; PackageDescription: 208-Pin Plastic Quad Flat Pack (PQ208); Code_JEDEC: MS-029-FA-1; ComponentLink1Description: XC5200 Datasheet; ComponentLink1URL: http://www.xilinx.com/support/documentation/data_sheets/5200.pdf; ComponentLink2Description: Pinout Specification; ComponentLink2URL: http://www.xilinx.com/support/documentation/data_sheets/5200.pdf; ComponentLink3Description: Discontinuation Notice; ComponentLink3URL: http://www.xilinx.com/support/documentation/customer_notices/xcn09001.pdf; ComponentLink4Description: PQ208 Package Drawing; ComponentLink4URL: http://www.xilinx.com/support/documentation/package_specs/pq208.pdf; ComponentLink5Description: XC5200 Documents; ComponentLink5URL: http://www.xilinx.com/support/documentation/xc5200.htm; ComponentLink6Description: Xilinx.com Home; ComponentLink6URL: http://www.xilinx.com
footprint PQ208_N (Shrink QFP, 208-Leads, Body 28x28mm, Pitch 0.5mm, IPC Medium Density)
footprint PQ208_L (Shrink QFP, 208-Leads, Body 28x28mm, Pitch 0.5mm, IPC High Density)
footprint PQ208_M (Shrink QFP, 208-Leads, Body 28x28mm, Pitch 0.5mm, IPC Low Density)
signal-integrity model XC5206_PQ208 (XC5200)
part A pins: 4 GCK1, A16 (io) "GCK1 (A16, I/O)", 5 A17 (io) "I/O (A17)", 8 TDI (io) "I/O (TDI)", 9 TCK (io) "I/O (TCK)", 17 TMS (io) "I/O (TMS)", 48 M1 (io) "M1 (I/O)", 50 M0 (io) "M0 (I/O)", 56 M2 (io) "M2 (I/O)", 57 GCK2 (io) "GCK2 (I/O)", 58 HDC (io) "I/O (HDC)", 62 ~{LDC} (io) "I/O (LDC)", 77 ERR, ~{INIT} (io) "I/O (ERR, INIT)", 103 DONE (io), 108 ~{PROG} (in), 109 D7 (io) "I/O (D7)", 110 GCK3 (io) "GCK3 (I/O)", 113 D6 (io) "I/O (D6)", 122 D5 (io) "I/O (D5)", 123 ~{CS0} (io) "I/O (CS0)", 128 D4 (io) "I/O (D4)", 132 D3 (io) "I/O (D3)", 133 ~{RS} (io) "I/O (RS)", 138 D2 (io) "I/O (D2)", 147 D1 (io) "I/O (D1)", 148 ~{RCLK}-~{BUSY}/RDY (io) "I/O (RCLK-BUSY/RDY)", 151 D0, DIN (io) "I/O (D0, DIN)", 152 DOUT (io) "I/O (DOUT)", 153 CCLK (io), 159 TDO (hiz) "I/O (TDO)", 161 A0, ~{WS} (io) "I/O (A0, WS)", 162 GCK4, A1 (io) "GCK4 (A1, I/O)", 165 A2, CS1 (io) "I/O (A2, CS1)", 166 A3 (io) "I/O (A3)", 174 A4 (io) "I/O (A4)", 175 A5 (io) "I/O (A5)", 180 A6 (io) "I/O (A6)", 181 A7 (io) "I/O (A7)", 184 A8 (io) "I/O (A8)", 185 A9 (io) "I/O (A9)", 190 A10 (io) "I/O (A10)", 191 A11 (io) "I/O (A11)", 199 A12 (io) "I/O (A12)", 200 A13 (io) "I/O (A13)", 203 A14 (io) "I/O (A14)", 204 A15 (io) "I/O (A15)"
part B pins: 6 I/O (io), 7 I/O (io), 10 I/O (io), 11 I/O (io), 15 I/O (io), 16 I/O (io), 18 I/O (io), 19 I/O (io), 20 I/O (io), 21 I/O (io), 22 I/O (io), 23 I/O (io), 24 I/O (io), 27 I/O (io), 28 I/O (io), 29 I/O (io), 30 I/O (io), 31 I/O (io), 32 I/O (io), 33 I/O (io), 34 I/O (io), 35 I/O (io), 36 I/O (io), 40 I/O (io), 41 I/O (io), 42 I/O (io), 43 I/O (io), 44 I/O (io), 45 I/O (io), 46 I/O (io), 47 I/O (io), 59 I/O (io), 60 I/O (io), 61 I/O (io), 63 I/O (io), 64 I/O (io), 68 I/O (io), 69 I/O (io), 70 I/O (io), 71 I/O (io), 72 I/O (io), 73 I/O (io), 74 I/O (io), 75 I/O (io), 76 I/O (io), 80 I/O (io), 81 I/O (io), 82 I/O (io), 83 I/O (io), 84 I/O (io), 85 I/O (io), 86 I/O (io), 87 I/O (io), 88 I/O (io), 89 I/O (io), 93 I/O (io), 94 I/O (io), 95 I/O (io), 96 I/O (io), 97 I/O (io), 98 I/O (io), 99 I/O (io), 100 I/O (io), 111 I/O (io), 112 I/O (io), 114 I/O (io), 115 I/O (io), 116 I/O (io), 120 I/O (io), 121 I/O (io), 124 I/O (io), 125 I/O (io), 126 I/O (io), 127 I/O (io), 129 I/O (io), 134 I/O (io), 135 I/O (io), 136 I/O (io), 137 I/O (io), 139 I/O (io), 140 I/O (io), 141 I/O (io), 145 I/O (io), 146 I/O (io), 149 I/O (io), 150 I/O (io), 163 I/O (io), 164 I/O (io), 167 I/O (io), 168 I/O (io), 172 I/O (io), 173 I/O (io), 176 I/O (io), 177 I/O (io), 178 I/O (io), 179 I/O (io), 186 I/O (io), 187 I/O (io), 188 I/O (io), 189 I/O (io), 192 I/O (io), 193 I/O (io), 197 I/O (io), 198 I/O (io), 201 I/O (io), 202 I/O (io)
part C pins: 26 VCC (power), 55 VCC (power), 78 VCC (power), 106 VCC (power), 130 VCC (power), 154 VCC (power), 183 VCC (power), 205 VCC (power)
part D pins: 2 GND (power), 14 GND (power), 25 GND (power), 37 GND (power), 49 GND (power), 67 GND (power), 79 GND (power), 90 GND (power), 101 GND (power), 119 GND (power), 131 GND (power), 142 GND (power), 160 GND (power), 171 GND (power), 182 GND (power), 194 GND (power)
part E pins: 1 NC, 3 NC, 12 NC, 13 NC, 38 NC, 39 NC, 51 NC, 52 NC, 53 NC, 54 NC, 65 NC, 66 NC, 91 NC, 92 NC, 102 NC, 104 NC, 105 NC, 107 NC, 117 NC, 118 NC, 143 NC, 144 NC, 155 NC, 156 NC, 157 NC, 158 NC, 169 NC, 170 NC, 195 NC, 196 NC, 206 NC, 207 NC, 208 NC

## XC5206-5TQ144C
designator U?
XC5200 Series FPGA, 117 User I/Os, 144-Pin TQFP, Commercial Grade; Published: 17-Nov-2009; DatasheetVersion: ver5.2, Nov-1998; PackageVersion: ver1.2, Jun-2004; PackageReference: TQ144; Publisher: Altium Limited; PackageDescription: 144-Pin Thin Quad Flat Pack (TQ144); Supplier 1: Digi-Key; Supplier Part Number 1: 122-1143-ND; Code_JEDEC: MS-026-BFB; ComponentLink1Description: XC5200 Datasheet; ComponentLink1URL: http://www.xilinx.com/support/documentation/data_sheets/5200.pdf; ComponentLink2Description: Pinout Specification; ComponentLink2URL: http://www.xilinx.com/support/documentation/data_sheets/5200.pdf; ComponentLink3Description: Discontinuation Notice; ComponentLink3URL: http://www.xilinx.com/support/documentation/customer_notices/xcn09001.pdf; ComponentLink4Description: TQ144 Package Drawing; ComponentLink4URL: http://www.xilinx.com/support/documentation/package_specs/tq144.pdf; ComponentLink5Description: XC5200 Documents; ComponentLink5URL: http://www.xilinx.com/support/documentation/xc5200.htm; ComponentLink6Description: Xilinx.com Home; ComponentLink6URL: http://www.xilinx.com
footprint TQ144_N (Thin QFP, 144-Leads, Body 20x20mm, Pitch 0.5mm, IPC Medium Density)
footprint TQ144_L (Thin QFP, 144-Leads, Body 20x20mm, Pitch 0.5mm, IPC High Density)
footprint TQ144_M (Thin QFP, 144-Leads, Body 20x20mm, Pitch 0.5mm, IPC Low Density)
signal-integrity model XC5206_TQ144 (XC5200)
part A pins: 2 GCK1, A16 (io) "GCK1 (A16, I/O)", 3 A17 (io) "I/O (A17)", 6 TDI (io) "I/O (TDI)", 7 TCK (io) "I/O (TCK)", 11 TMS (io) "I/O (TMS)", 34 M1 (io) "M1 (I/O)", 36 M0 (io) "M0 (I/O)", 38 M2 (io) "M2 (I/O)", 39 GCK2 (io) "GCK2 (I/O)", 40 HDC (io) "I/O (HDC)", 44 ~{LDC} (io) "I/O (LDC)", 53 ERR, ~{INIT} (io) "I/O (ERR, INIT)", 72 DONE (io), 74 ~{PROG} (in), 75 D7 (io) "I/O (D7)", 76 GCK3 (io) "GCK3 (I/O)", 79 D6 (io) "I/O (D6)", 84 D5 (io) "I/O (D5)", 85 ~{CS0} (io) "I/O (CS0)", 88 D4 (io) "I/O (D4)", 92 D3 (io) "I/O (D3)", 93 ~{RS} (io) "I/O (RS)", 96 D2 (io) "I/O (D2)", 101 D1 (io) "I/O (D1)", 102 ~{RCLK}-~{BUSY}/RDY (io) "I/O (RCLK-BUSY/RDY)", 105 D0, DIN (io) "I/O (D0, DIN)", 106 DOUT (io) "I/O (DOUT)", 107 CCLK (io), 109 TDO (hiz) "I/O (TDO)", 111 A0, ~{WS} (io) "I/O (A0, WS)", 112 GCK4, A1 (io) "GCK4 (A1, I/O)", 115 A2, CS1 (io) "I/O (A2, CS1)", 116 A3 (io) "I/O (A3)", 121 A4 (io) "I/O (A4)", 122 A5 (io) "I/O (A5)", 125 A6 (io) "I/O (A6)", 126 A7 (io) "I/O (A7)", 129 A8 (io) "I/O (A8)", 130 A9 (io) "I/O (A9)", 133 A10 (io) "I/O (A10)", 134 A11 (io) "I/O (A11)", 138 A12 (io) "I/O (A12)", 139 A13 (io) "I/O (A13)", 142 A14 (io) "I/O (A14)", 143 A15 (io) "I/O (A15)"
part B pins: 4 I/O (io), 5 I/O (io), 9 I/O (io), 10 I/O (io), 12 I/O (io), 13 I/O (io), 14 I/O (io), 15 I/O (io), 16 I/O (io), 19 I/O (io), 20 I/O (io), 21 I/O (io), 22 I/O (io), 23 I/O (io), 24 I/O (io), 25 I/O (io), 26 I/O (io), 28 I/O (io), 29 I/O (io), 30 I/O (io), 31 I/O (io), 32 I/O (io), 33 I/O (io), 41 I/O (io), 42 I/O (io), 43 I/O (io), 46 I/O (io), 47 I/O (io), 48 I/O (io), 49 I/O (io), 50 I/O (io), 51 I/O (io), 52 I/O (io), 56 I/O (io), 57 I/O (io), 58 I/O (io), 59 I/O (io), 60 I/O (io), 61 I/O (io), 62 I/O (io), 63 I/O (io), 65 I/O (io), 66 I/O (io), 67 I/O (io), 68 I/O (io), 69 I/O (io), 70 I/O (io), 77 I/O (io), 78 I/O (io), 80 I/O (io), 82 I/O (io), 83 I/O (io), 86 I/O (io), 87 I/O (io), 89 I/O (io), 94 I/O (io), 95 I/O (io), 97 I/O (io), 98 I/O (io), 99 I/O (io), 103 I/O (io), 104 I/O (io), 113 I/O (io), 114 I/O (io), 117 I/O (io), 119 I/O (io), 120 I/O (io), 123 I/O (io), 124 I/O (io), 131 I/O (io), 132 I/O (io), 135 I/O (io), 136 I/O (io), 140 I/O (io), 141 I/O (io)
part C pins: 18 VCC (power), 37 VCC (power), 54 VCC (power), 73 VCC (power), 90 VCC (power), 108 VCC (power), 128 VCC (power), 144 VCC (power)
part D pins: 1 GND (power), 8 GND (power), 17 GND (power), 27 GND (power), 35 GND (power), 45 GND (power), 55 GND (power), 64 GND (power), 71 GND (power), 81 GND (power), 91 GND (power), 100 GND (power), 110 GND (power), 118 GND (power), 127 GND (power), 137 GND (power)

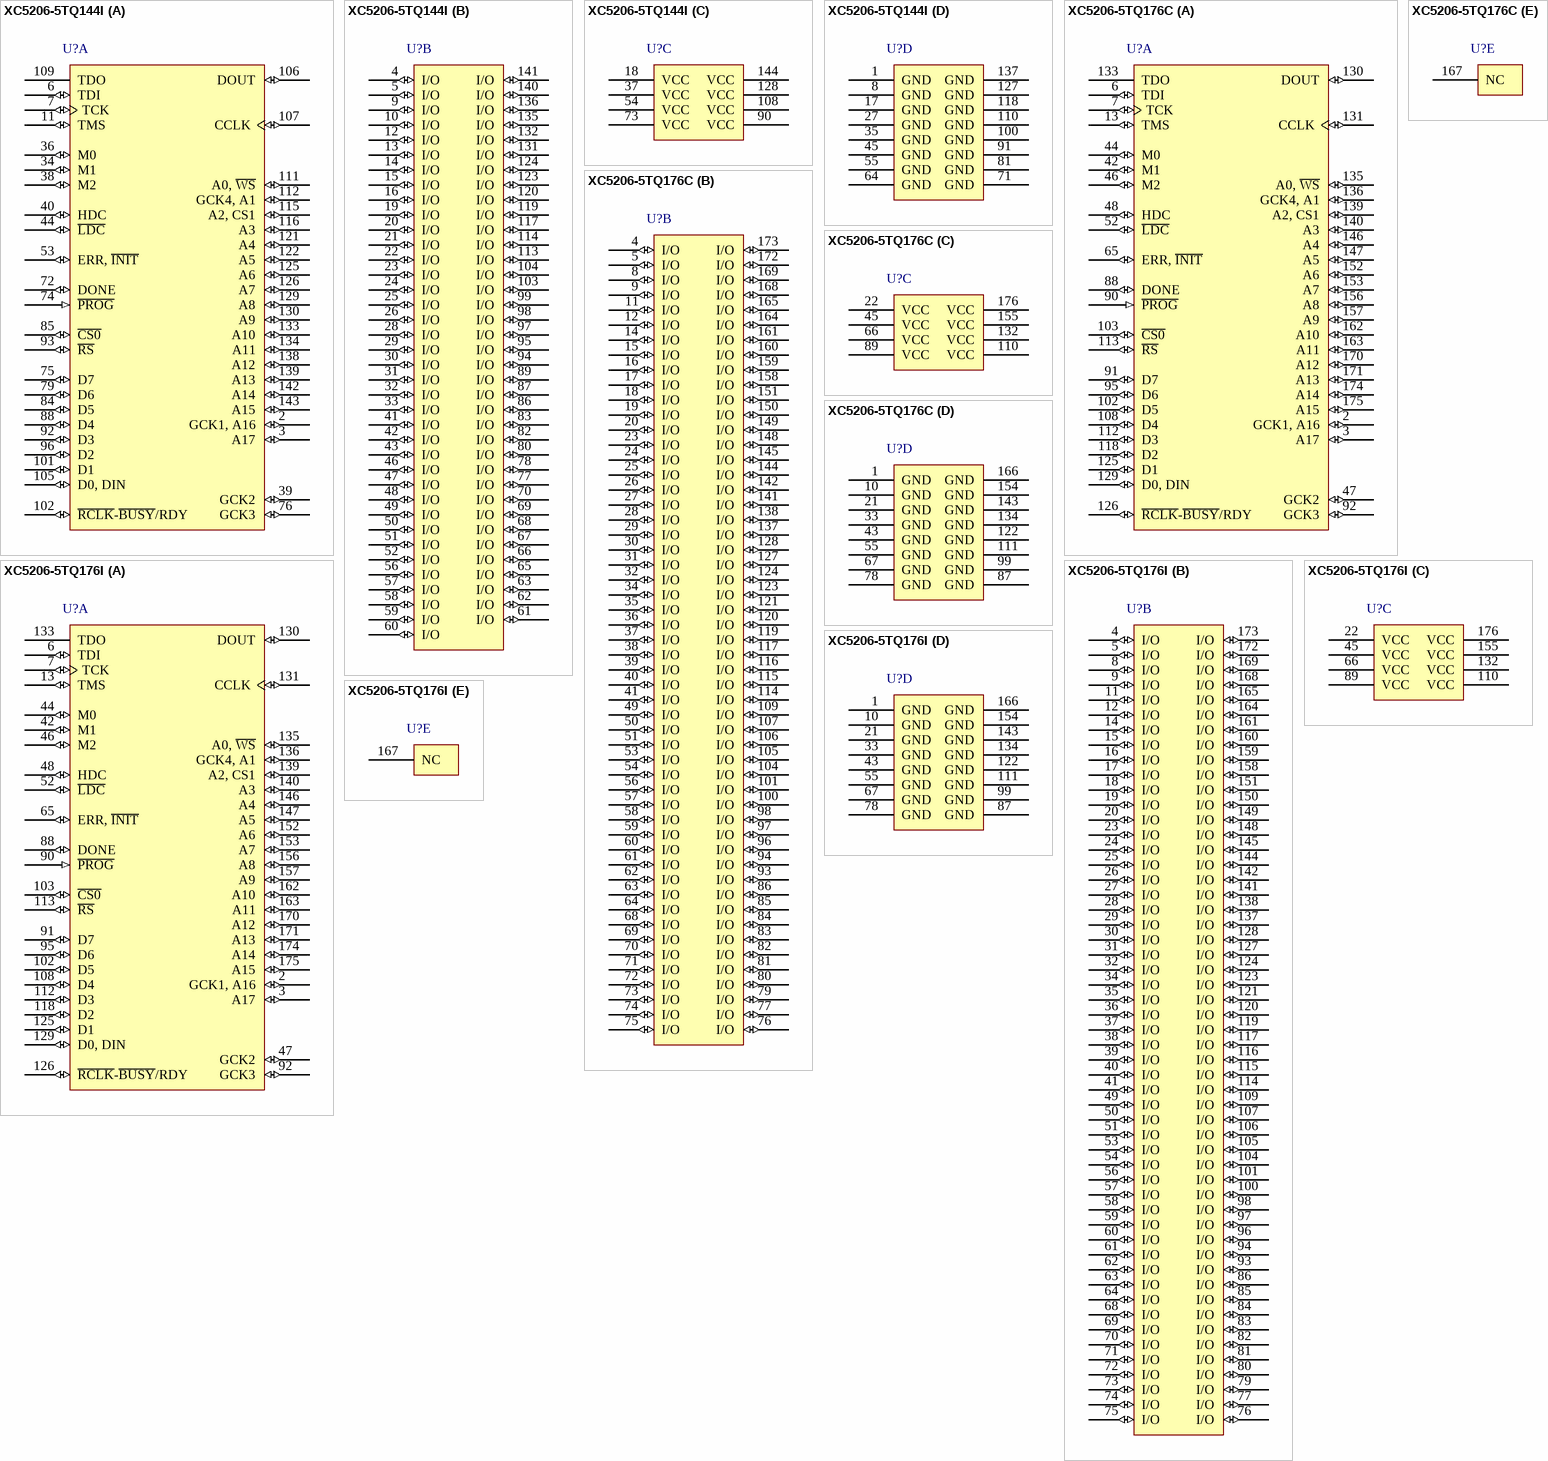
[diagram p25: symbols XC5206-5TQ144I to XC5206-5TQ176I]

## XC5206-5TQ144I
designator U?
XC5200 Series FPGA, 117 User I/Os, 144-Pin TQFP, Industrial Grade; Published: 17-Nov-2009; DatasheetVersion: ver5.2, Nov-1998; PackageVersion: ver1.2, Jun-2004; PackageReference: TQ144; Publisher: Altium Limited; PackageDescription: 144-Pin Thin Quad Flat Pack (TQ144); Code_JEDEC: MS-026-BFB; ComponentLink1Description: XC5200 Datasheet; ComponentLink1URL: http://www.xilinx.com/support/documentation/data_sheets/5200.pdf; ComponentLink2Description: Pinout Specification; ComponentLink2URL: http://www.xilinx.com/support/documentation/data_sheets/5200.pdf; ComponentLink3Description: Discontinuation Notice; ComponentLink3URL: http://www.xilinx.com/support/documentation/customer_notices/xcn09001.pdf; ComponentLink4Description: TQ144 Package Drawing; ComponentLink4URL: http://www.xilinx.com/support/documentation/package_specs/tq144.pdf; ComponentLink5Description: XC5200 Documents; ComponentLink5URL: http://www.xilinx.com/support/documentation/xc5200.htm; ComponentLink6Description: Xilinx.com Home; ComponentLink6URL: http://www.xilinx.com
footprint TQ144_N (Thin QFP, 144-Leads, Body 20x20mm, Pitch 0.5mm, IPC Medium Density)
footprint TQ144_L (Thin QFP, 144-Leads, Body 20x20mm, Pitch 0.5mm, IPC High Density)
footprint TQ144_M (Thin QFP, 144-Leads, Body 20x20mm, Pitch 0.5mm, IPC Low Density)
signal-integrity model XC5206_TQ144 (XC5200)
part A pins: 2 GCK1, A16 (io) "GCK1 (A16, I/O)", 3 A17 (io) "I/O (A17)", 6 TDI (io) "I/O (TDI)", 7 TCK (io) "I/O (TCK)", 11 TMS (io) "I/O (TMS)", 34 M1 (io) "M1 (I/O)", 36 M0 (io) "M0 (I/O)", 38 M2 (io) "M2 (I/O)", 39 GCK2 (io) "GCK2 (I/O)", 40 HDC (io) "I/O (HDC)", 44 ~{LDC} (io) "I/O (LDC)", 53 ERR, ~{INIT} (io) "I/O (ERR, INIT)", 72 DONE (io), 74 ~{PROG} (in), 75 D7 (io) "I/O (D7)", 76 GCK3 (io) "GCK3 (I/O)", 79 D6 (io) "I/O (D6)", 84 D5 (io) "I/O (D5)", 85 ~{CS0} (io) "I/O (CS0)", 88 D4 (io) "I/O (D4)", 92 D3 (io) "I/O (D3)", 93 ~{RS} (io) "I/O (RS)", 96 D2 (io) "I/O (D2)", 101 D1 (io) "I/O (D1)", 102 ~{RCLK}-~{BUSY}/RDY (io) "I/O (RCLK-BUSY/RDY)", 105 D0, DIN (io) "I/O (D0, DIN)", 106 DOUT (io) "I/O (DOUT)", 107 CCLK (io), 109 TDO (hiz) "I/O (TDO)", 111 A0, ~{WS} (io) "I/O (A0, WS)", 112 GCK4, A1 (io) "GCK4 (A1, I/O)", 115 A2, CS1 (io) "I/O (A2, CS1)", 116 A3 (io) "I/O (A3)", 121 A4 (io) "I/O (A4)", 122 A5 (io) "I/O (A5)", 125 A6 (io) "I/O (A6)", 126 A7 (io) "I/O (A7)", 129 A8 (io) "I/O (A8)", 130 A9 (io) "I/O (A9)", 133 A10 (io) "I/O (A10)", 134 A11 (io) "I/O (A11)", 138 A12 (io) "I/O (A12)", 139 A13 (io) "I/O (A13)", 142 A14 (io) "I/O (A14)", 143 A15 (io) "I/O (A15)"
part B pins: 4 I/O (io), 5 I/O (io), 9 I/O (io), 10 I/O (io), 12 I/O (io), 13 I/O (io), 14 I/O (io), 15 I/O (io), 16 I/O (io), 19 I/O (io), 20 I/O (io), 21 I/O (io), 22 I/O (io), 23 I/O (io), 24 I/O (io), 25 I/O (io), 26 I/O (io), 28 I/O (io), 29 I/O (io), 30 I/O (io), 31 I/O (io), 32 I/O (io), 33 I/O (io), 41 I/O (io), 42 I/O (io), 43 I/O (io), 46 I/O (io), 47 I/O (io), 48 I/O (io), 49 I/O (io), 50 I/O (io), 51 I/O (io), 52 I/O (io), 56 I/O (io), 57 I/O (io), 58 I/O (io), 59 I/O (io), 60 I/O (io), 61 I/O (io), 62 I/O (io), 63 I/O (io), 65 I/O (io), 66 I/O (io), 67 I/O (io), 68 I/O (io), 69 I/O (io), 70 I/O (io), 77 I/O (io), 78 I/O (io), 80 I/O (io), 82 I/O (io), 83 I/O (io), 86 I/O (io), 87 I/O (io), 89 I/O (io), 94 I/O (io), 95 I/O (io), 97 I/O (io), 98 I/O (io), 99 I/O (io), 103 I/O (io), 104 I/O (io), 113 I/O (io), 114 I/O (io), 117 I/O (io), 119 I/O (io), 120 I/O (io), 123 I/O (io), 124 I/O (io), 131 I/O (io), 132 I/O (io), 135 I/O (io), 136 I/O (io), 140 I/O (io), 141 I/O (io)
part C pins: 18 VCC (power), 37 VCC (power), 54 VCC (power), 73 VCC (power), 90 VCC (power), 108 VCC (power), 128 VCC (power), 144 VCC (power)
part D pins: 1 GND (power), 8 GND (power), 17 GND (power), 27 GND (power), 35 GND (power), 45 GND (power), 55 GND (power), 64 GND (power), 71 GND (power), 81 GND (power), 91 GND (power), 100 GND (power), 110 GND (power), 118 GND (power), 127 GND (power), 137 GND (power)

## XC5206-5TQ176C
designator U?
XC5200 Series FPGA, 148 User I/Os, 176-Pin TQFP, Commercial Grade; Published: 17-Nov-2009; DatasheetVersion: ver5.2, Nov-1998; PackageVersion: ver1.2, Jun-2004; PackageReference: TQ176; Publisher: Altium Limited; PackageDescription: 176-Pin Thin Quad Flat Pack (TQ176); Code_JEDEC: MS-026-BGA; ComponentLink1Description: XC5200 Datasheet; ComponentLink1URL: http://www.xilinx.com/support/documentation/data_sheets/5200.pdf; ComponentLink2Description: Pinout Specification; ComponentLink2URL: http://www.xilinx.com/support/documentation/data_sheets/5200.pdf; ComponentLink3Description: TQ176 Package Drawing; ComponentLink3URL: http://www.xilinx.com/support/documentation/package_specs/tq176.pdf; ComponentLink4Description: XC5200 Documents; ComponentLink4URL: http://www.xilinx.com/support/documentation/xc5200.htm; ComponentLink5Description: Xilinx.com Home; ComponentLink5URL: http://www.xilinx.com
footprint TQ176_N (Thin QFP, 176-Leads, Body 24x24mm, Pitch 0.5mm, IPC Medium Density)
footprint TQ176_L (Thin QFP, 176-Leads, Body 24x24mm, Pitch 0.5mm, IPC High Density)
footprint TQ176_M (Thin QFP, 176-Leads, Body 24x24mm, Pitch 0.5mm, IPC Low Density)
signal-integrity model XC5206_TQ176 (XC5200)
part A pins: 2 GCK1, A16 (io) "GCK1 (A16, I/O)", 3 A17 (io) "I/O (A17)", 6 TDI (io) "I/O (TDI)", 7 TCK (io) "I/O (TCK)", 13 TMS (io) "I/O (TMS)", 42 M1 (io) "M1 (I/O)", 44 M0 (io) "M0 (I/O)", 46 M2 (io) "M2 (I/O)", 47 GCK2 (io) "GCK2 (I/O)", 48 HDC (io) "I/O (HDC)", 52 ~{LDC} (io) "I/O (LDC)", 65 ERR, ~{INIT} (io) "I/O (ERR, INIT)", 88 DONE (io), 90 ~{PROG} (in), 91 D7 (io) "I/O (D7)", 92 GCK3 (io) "GCK3 (I/O)", 95 D6 (io) "I/O (D6)", 102 D5 (io) "I/O (D5)", 103 ~{CS0} (io) "I/O (CS0)", 108 D4 (io) "I/O (D4)", 112 D3 (io) "I/O (D3)", 113 ~{RS} (io) "I/O (RS)", 118 D2 (io) "I/O (D2)", 125 D1 (io) "I/O (D1)", 126 ~{RCLK}-~{BUSY}/RDY (io) "I/O (RCLK-BUSY/RDY)", 129 D0, DIN (io) "I/O (D0, DIN)", 130 DOUT (io) "I/O (DOUT)", 131 CCLK (io), 133 TDO (hiz) "I/O (TDO)", 135 A0, ~{WS} (io) "I/O (A0, WS)", 136 GCK4, A1 (io) "GCK4 (A1, I/O)", 139 A2, CS1 (io) "I/O (A2, CS1)", 140 A3 (io) "I/O (A3)", 146 A4 (io) "I/O (A4)", 147 A5 (io) "I/O (A5)", 152 A6 (io) "I/O (A6)", 153 A7 (io) "I/O (A7)", 156 A8 (io) "I/O (A8)", 157 A9 (io) "I/O (A9)", 162 A10 (io) "I/O (A10)", 163 A11 (io) "I/O (A11)", 170 A12 (io) "I/O (A12)", 171 A13 (io) "I/O (A13)", 174 A14 (io) "I/O (A14)", 175 A15 (io) "I/O (A15)"
part B pins: 4 I/O (io), 5 I/O (io), 8 I/O (io), 9 I/O (io), 11 I/O (io), 12 I/O (io), 14 I/O (io), 15 I/O (io), 16 I/O (io), 17 I/O (io), 18 I/O (io), 19 I/O (io), 20 I/O (io), 23 I/O (io), 24 I/O (io), 25 I/O (io), 26 I/O (io), 27 I/O (io), 28 I/O (io), 29 I/O (io), 30 I/O (io), 31 I/O (io), 32 I/O (io), 34 I/O (io), 35 I/O (io), 36 I/O (io), 37 I/O (io), 38 I/O (io), 39 I/O (io), 40 I/O (io), 41 I/O (io), 49 I/O (io), 50 I/O (io), 51 I/O (io), 53 I/O (io), 54 I/O (io), 56 I/O (io), 57 I/O (io), 58 I/O (io), 59 I/O (io), 60 I/O (io), 61 I/O (io), 62 I/O (io), 63 I/O (io), 64 I/O (io), 68 I/O (io), 69 I/O (io), 70 I/O (io), 71 I/O (io), 72 I/O (io), 73 I/O (io), 74 I/O (io), 75 I/O (io), 76 I/O (io), 77 I/O (io), 79 I/O (io), 80 I/O (io), 81 I/O (io), 82 I/O (io), 83 I/O (io), 84 I/O (io), 85 I/O (io), 86 I/O (io), 93 I/O (io), 94 I/O (io), 96 I/O (io), 97 I/O (io), 98 I/O (io), 100 I/O (io), 101 I/O (io), 104 I/O (io), 105 I/O (io), 106 I/O (io), 107 I/O (io), 109 I/O (io), 114 I/O (io), 115 I/O (io), 116 I/O (io), 117 I/O (io), 119 I/O (io), 120 I/O (io), 121 I/O (io), 123 I/O (io), 124 I/O (io), 127 I/O (io), 128 I/O (io), 137 I/O (io), 138 I/O (io), 141 I/O (io), 142 I/O (io), 144 I/O (io), 145 I/O (io), 148 I/O (io), 149 I/O (io), 150 I/O (io), 151 I/O (io), 158 I/O (io), 159 I/O (io), 160 I/O (io), 161 I/O (io), 164 I/O (io), 165 I/O (io), 168 I/O (io), 169 I/O (io), 172 I/O (io), 173 I/O (io)
part C pins: 22 VCC (power), 45 VCC (power), 66 VCC (power), 89 VCC (power), 110 VCC (power), 132 VCC (power), 155 VCC (power), 176 VCC (power)
part D pins: 1 GND (power), 10 GND (power), 21 GND (power), 33 GND (power), 43 GND (power), 55 GND (power), 67 GND (power), 78 GND (power), 87 GND (power), 99 GND (power), 111 GND (power), 122 GND (power), 134 GND (power), 143 GND (power), 154 GND (power), 166 GND (power)
part E pins: 167 NC

## XC5206-5TQ176I
designator U?
XC5200 Series FPGA, 148 User I/Os, 176-Pin TQFP, Industrial Grade; Published: 17-Nov-2009; DatasheetVersion: ver5.2, Nov-1998; PackageVersion: ver1.2, Jun-2004; PackageReference: TQ176; Publisher: Altium Limited; PackageDescription: 176-Pin Thin Quad Flat Pack (TQ176); Code_JEDEC: MS-026-BGA; ComponentLink1Description: XC5200 Datasheet; ComponentLink1URL: http://www.xilinx.com/support/documentation/data_sheets/5200.pdf; ComponentLink2Description: Pinout Specification; ComponentLink2URL: http://www.xilinx.com/support/documentation/data_sheets/5200.pdf; ComponentLink3Description: TQ176 Package Drawing; ComponentLink3URL: http://www.xilinx.com/support/documentation/package_specs/tq176.pdf; ComponentLink4Description: XC5200 Documents; ComponentLink4URL: http://www.xilinx.com/support/documentation/xc5200.htm; ComponentLink5Description: Xilinx.com Home; ComponentLink5URL: http://www.xilinx.com
footprint TQ176_N (Thin QFP, 176-Leads, Body 24x24mm, Pitch 0.5mm, IPC Medium Density)
footprint TQ176_L (Thin QFP, 176-Leads, Body 24x24mm, Pitch 0.5mm, IPC High Density)
footprint TQ176_M (Thin QFP, 176-Leads, Body 24x24mm, Pitch 0.5mm, IPC Low Density)
signal-integrity model XC5206_TQ176 (XC5200)
part A pins: 2 GCK1, A16 (io) "GCK1 (A16, I/O)", 3 A17 (io) "I/O (A17)", 6 TDI (io) "I/O (TDI)", 7 TCK (io) "I/O (TCK)", 13 TMS (io) "I/O (TMS)", 42 M1 (io) "M1 (I/O)", 44 M0 (io) "M0 (I/O)", 46 M2 (io) "M2 (I/O)", 47 GCK2 (io) "GCK2 (I/O)", 48 HDC (io) "I/O (HDC)", 52 ~{LDC} (io) "I/O (LDC)", 65 ERR, ~{INIT} (io) "I/O (ERR, INIT)", 88 DONE (io), 90 ~{PROG} (in), 91 D7 (io) "I/O (D7)", 92 GCK3 (io) "GCK3 (I/O)", 95 D6 (io) "I/O (D6)", 102 D5 (io) "I/O (D5)", 103 ~{CS0} (io) "I/O (CS0)", 108 D4 (io) "I/O (D4)", 112 D3 (io) "I/O (D3)", 113 ~{RS} (io) "I/O (RS)", 118 D2 (io) "I/O (D2)", 125 D1 (io) "I/O (D1)", 126 ~{RCLK}-~{BUSY}/RDY (io) "I/O (RCLK-BUSY/RDY)", 129 D0, DIN (io) "I/O (D0, DIN)", 130 DOUT (io) "I/O (DOUT)", 131 CCLK (io), 133 TDO (hiz) "I/O (TDO)", 135 A0, ~{WS} (io) "I/O (A0, WS)", 136 GCK4, A1 (io) "GCK4 (A1, I/O)", 139 A2, CS1 (io) "I/O (A2, CS1)", 140 A3 (io) "I/O (A3)", 146 A4 (io) "I/O (A4)", 147 A5 (io) "I/O (A5)", 152 A6 (io) "I/O (A6)", 153 A7 (io) "I/O (A7)", 156 A8 (io) "I/O (A8)", 157 A9 (io) "I/O (A9)", 162 A10 (io) "I/O (A10)", 163 A11 (io) "I/O (A11)", 170 A12 (io) "I/O (A12)", 171 A13 (io) "I/O (A13)", 174 A14 (io) "I/O (A14)", 175 A15 (io) "I/O (A15)"
part B pins: 4 I/O (io), 5 I/O (io), 8 I/O (io), 9 I/O (io), 11 I/O (io), 12 I/O (io), 14 I/O (io), 15 I/O (io), 16 I/O (io), 17 I/O (io), 18 I/O (io), 19 I/O (io), 20 I/O (io), 23 I/O (io), 24 I/O (io), 25 I/O (io), 26 I/O (io), 27 I/O (io), 28 I/O (io), 29 I/O (io), 30 I/O (io), 31 I/O (io), 32 I/O (io), 34 I/O (io), 35 I/O (io), 36 I/O (io), 37 I/O (io), 38 I/O (io), 39 I/O (io), 40 I/O (io), 41 I/O (io), 49 I/O (io), 50 I/O (io), 51 I/O (io), 53 I/O (io), 54 I/O (io), 56 I/O (io), 57 I/O (io), 58 I/O (io), 59 I/O (io), 60 I/O (io), 61 I/O (io), 62 I/O (io), 63 I/O (io), 64 I/O (io), 68 I/O (io), 69 I/O (io), 70 I/O (io), 71 I/O (io), 72 I/O (io), 73 I/O (io), 74 I/O (io), 75 I/O (io), 76 I/O (io), 77 I/O (io), 79 I/O (io), 80 I/O (io), 81 I/O (io), 82 I/O (io), 83 I/O (io), 84 I/O (io), 85 I/O (io), 86 I/O (io), 93 I/O (io), 94 I/O (io), 96 I/O (io), 97 I/O (io), 98 I/O (io), 100 I/O (io), 101 I/O (io), 104 I/O (io), 105 I/O (io), 106 I/O (io), 107 I/O (io), 109 I/O (io), 114 I/O (io), 115 I/O (io), 116 I/O (io), 117 I/O (io), 119 I/O (io), 120 I/O (io), 121 I/O (io), 123 I/O (io), 124 I/O (io), 127 I/O (io), 128 I/O (io), 137 I/O (io), 138 I/O (io), 141 I/O (io), 142 I/O (io), 144 I/O (io), 145 I/O (io), 148 I/O (io), 149 I/O (io), 150 I/O (io), 151 I/O (io), 158 I/O (io), 159 I/O (io), 160 I/O (io), 161 I/O (io), 164 I/O (io), 165 I/O (io), 168 I/O (io), 169 I/O (io), 172 I/O (io), 173 I/O (io)
part C pins: 22 VCC (power), 45 VCC (power), 66 VCC (power), 89 VCC (power), 110 VCC (power), 132 VCC (power), 155 VCC (power), 176 VCC (power)
part D pins: 1 GND (power), 10 GND (power), 21 GND (power), 33 GND (power), 43 GND (power), 55 GND (power), 67 GND (power), 78 GND (power), 87 GND (power), 99 GND (power), 111 GND (power), 122 GND (power), 134 GND (power), 143 GND (power), 154 GND (power), 166 GND (power)
part E pins: 167 NC

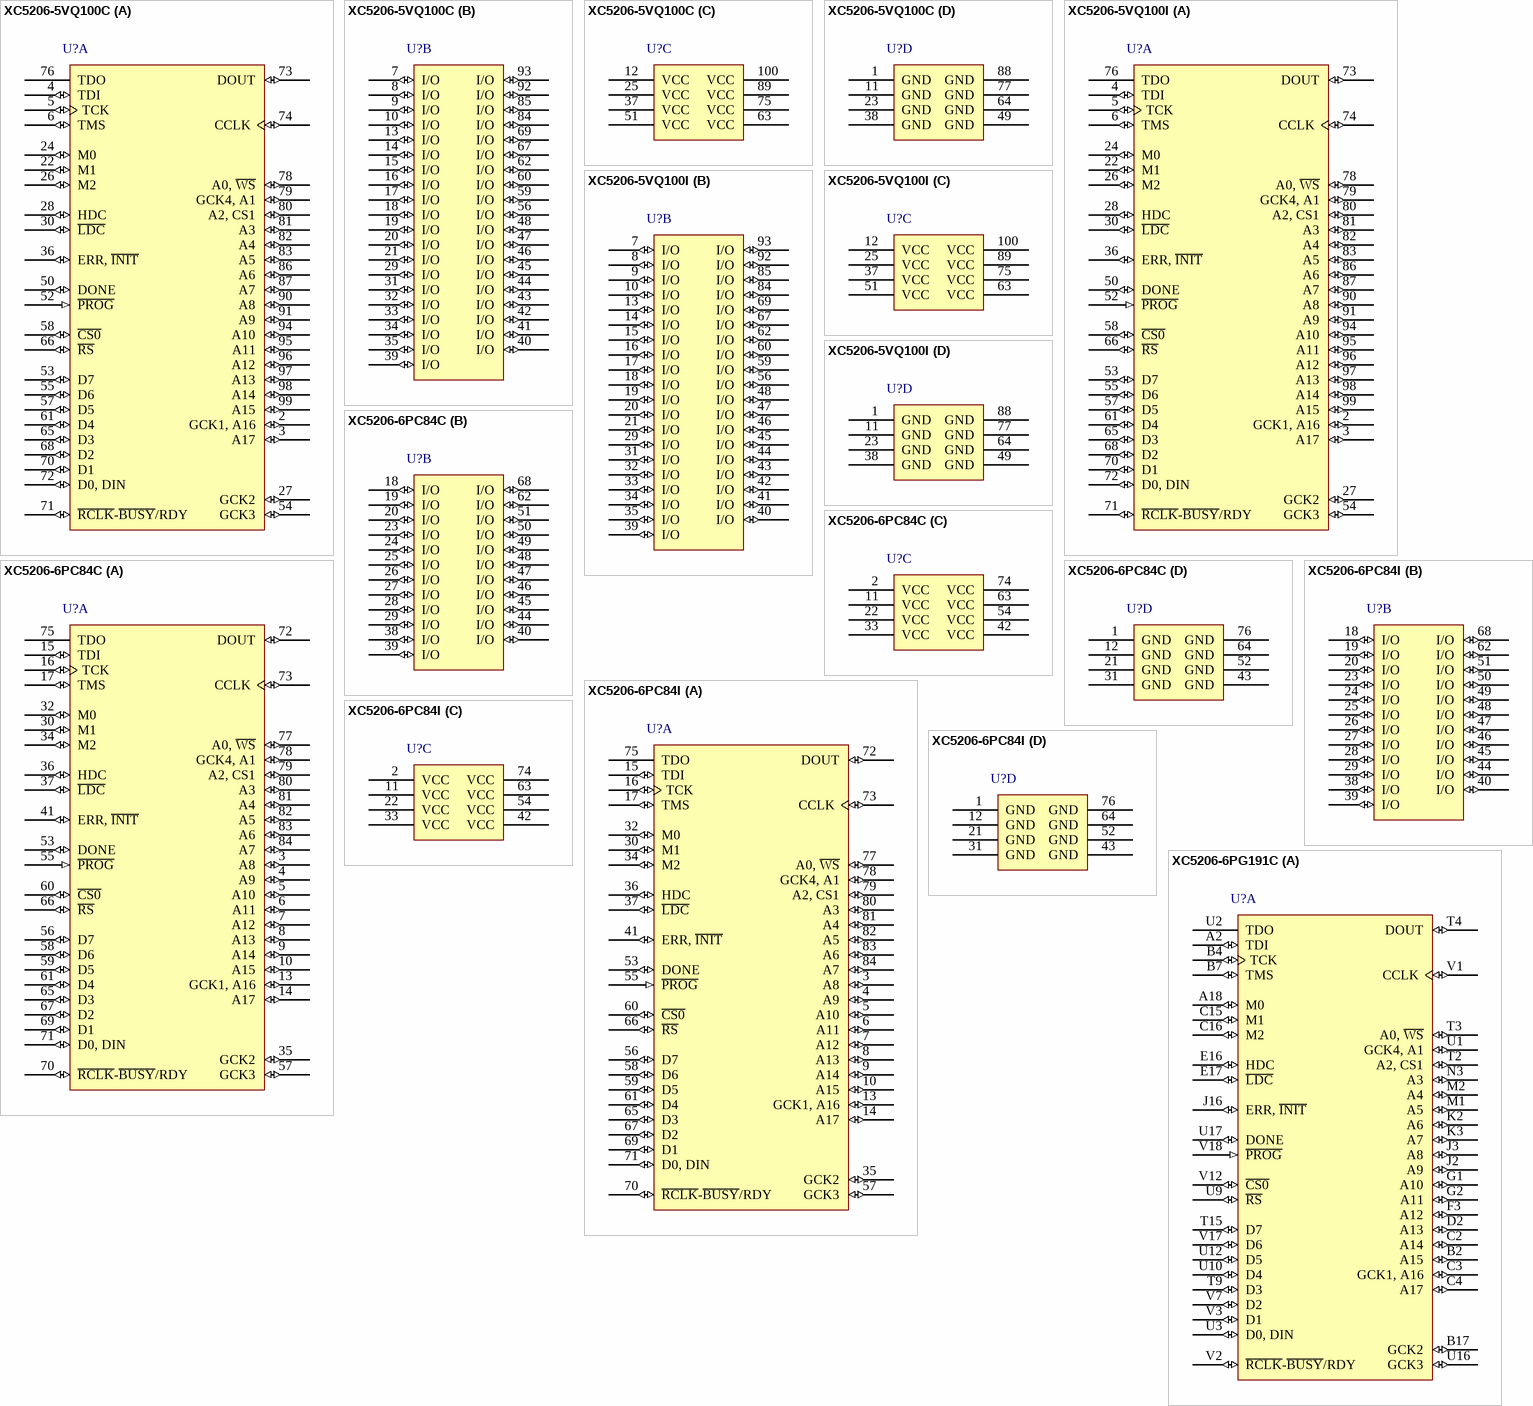
[diagram p26: symbols XC5206-5VQ100C to XC5206-6PG191C]